# Altium schematic symbol library 1.5 - 精密运放-比较器.SchLib: 533 symbols (part 3 of 4)
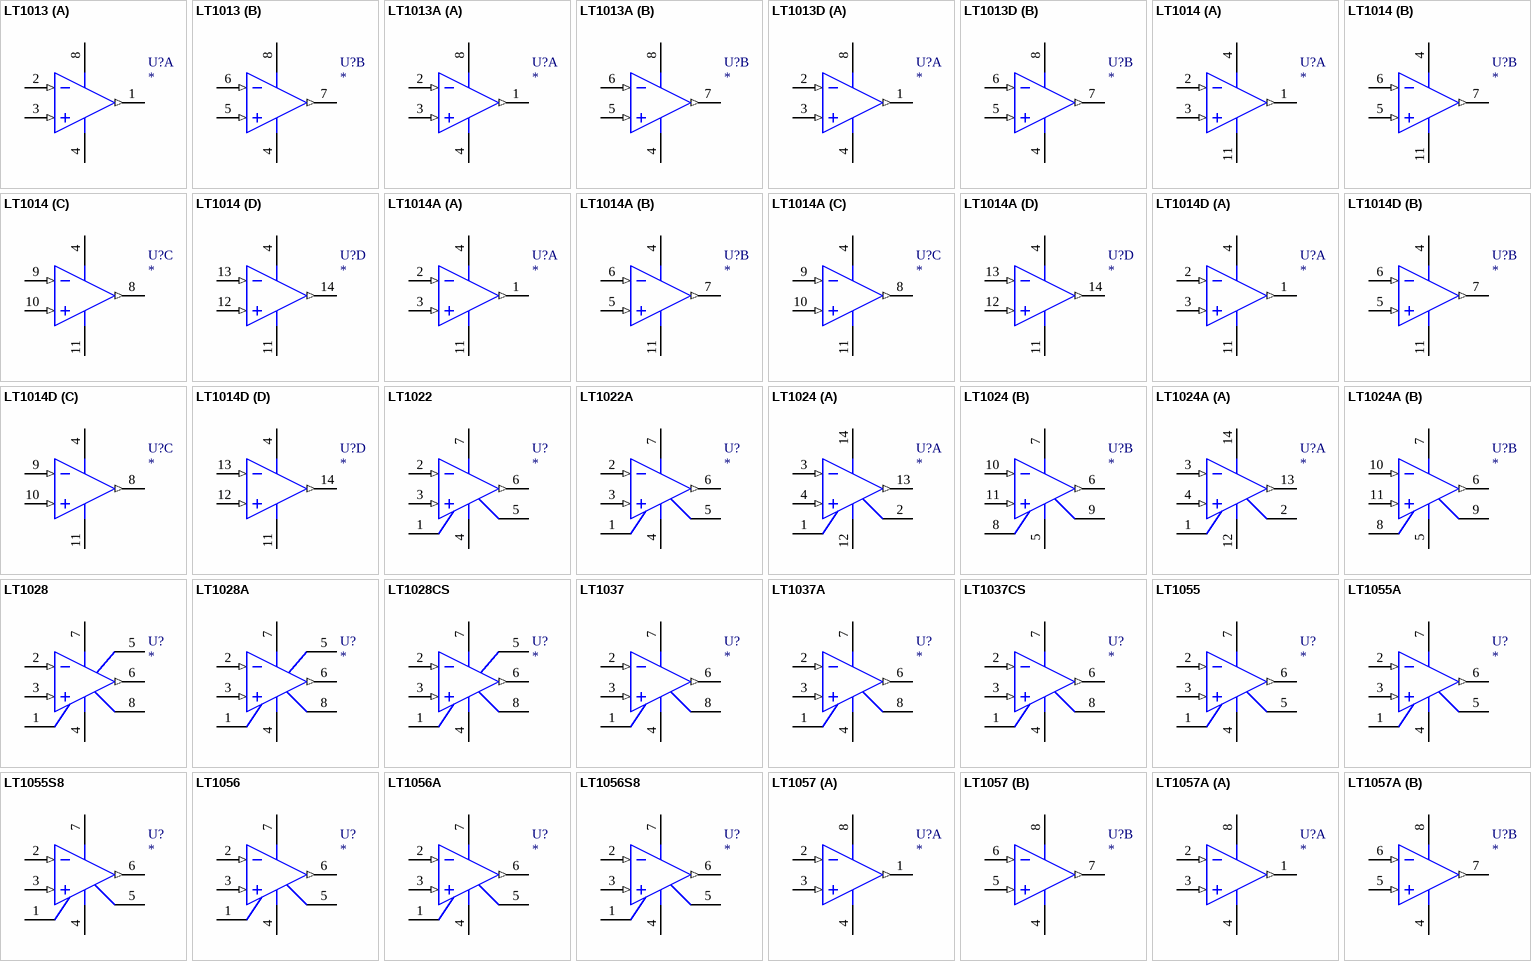
[diagram p25: symbols LT1013 to LT1057A]

## LT1055
designator U?
Precision, High Speed, JFET Input Operational Amplifier; 联系卖家 免费查找封装: 唯一出售店铺网址https://shop463601444.taobao.com
simulation model LT1055 (SUBCKT)
pins: 1 BAL, 2 -IN (in), 3 +IN (in), 4 V- (power), 5 BAL, 6 OUT (out), 7 V+ (power)

## LT1055A
designator U?
Precision, High Speed, JFET Input Operational Amplifier; 联系卖家 免费查找封装: 唯一出售店铺网址https://shop463601444.taobao.com
simulation model LT1055A (SUBCKT)
pins: 1 BAL, 2 -IN (in), 3 +IN (in), 4 V- (power), 5 BAL, 6 OUT (out), 7 V+ (power)

## LT1055S8
designator U?
Precision, High Speed, JFET Input Operational Amplifier; 联系卖家 免费查找封装: 唯一出售店铺网址https://shop463601444.taobao.com
simulation model LT1055S8 (SUBCKT)
pins: 1 BAL, 2 -IN (in), 3 +IN (in), 4 V- (power), 5 BAL, 6 OUT (out), 7 V+ (power)

## LT1056
designator U?
Precision, High Speed, JFET Input Operational Amplifier; 联系卖家 免费查找封装: 唯一出售店铺网址https://shop463601444.taobao.com
simulation model LT1056 (SUBCKT)
pins: 1 BAL, 2 -IN (in), 3 +IN (in), 4 V- (power), 5 BAL, 6 OUT (out), 7 V+ (power)

## LT1056A
designator U?
Precision, High Speed, JFET Input Operational Amplifier; 联系卖家 免费查找封装: 唯一出售店铺网址https://shop463601444.taobao.com
simulation model LT1056A (SUBCKT)
pins: 1 BAL, 2 -IN (in), 3 +IN (in), 4 V- (power), 5 BAL, 6 OUT (out), 7 V+ (power)

## LT1056S8
designator U?
Precision, High Speed, JFET Input Operational Amplifier; 联系卖家 免费查找封装: 唯一出售店铺网址https://shop463601444.taobao.com
simulation model LT1056S8 (SUBCKT)
pins: 1 BAL, 2 -IN (in), 3 +IN (in), 4 V- (power), 5 BAL, 6 OUT (out), 7 V+ (power)

## LT1057
designator U?
Dual JFET Input Precision High Speed Operational Amplifier; 联系卖家 免费查找封装: 唯一出售店铺网址https://shop463601444.taobao.com
simulation model LT1057 (SUBCKT)
part A pins: 1 OUT A (out), 2 -IN A (in), 3 +IN A (in), 4 V- (power), 8 V+ (power)
part B pins: 4 V- (power), 5 +IN B (in), 6 -IN B (in), 7 OUT B (out), 8 V+ (power)

## LT1057A
designator U?
Dual JFET Input Precision High Speed Operational Amplifier; 联系卖家 免费查找封装: 唯一出售店铺网址https://shop463601444.taobao.com
simulation model LT1057A (SUBCKT)
part A pins: 1 OUT A (out), 2 -IN A (in), 3 +IN A (in), 4 V- (power), 8 V+ (power)
part B pins: 4 V- (power), 5 +IN B (in), 6 -IN B (in), 7 OUT B (out), 8 V+ (power)

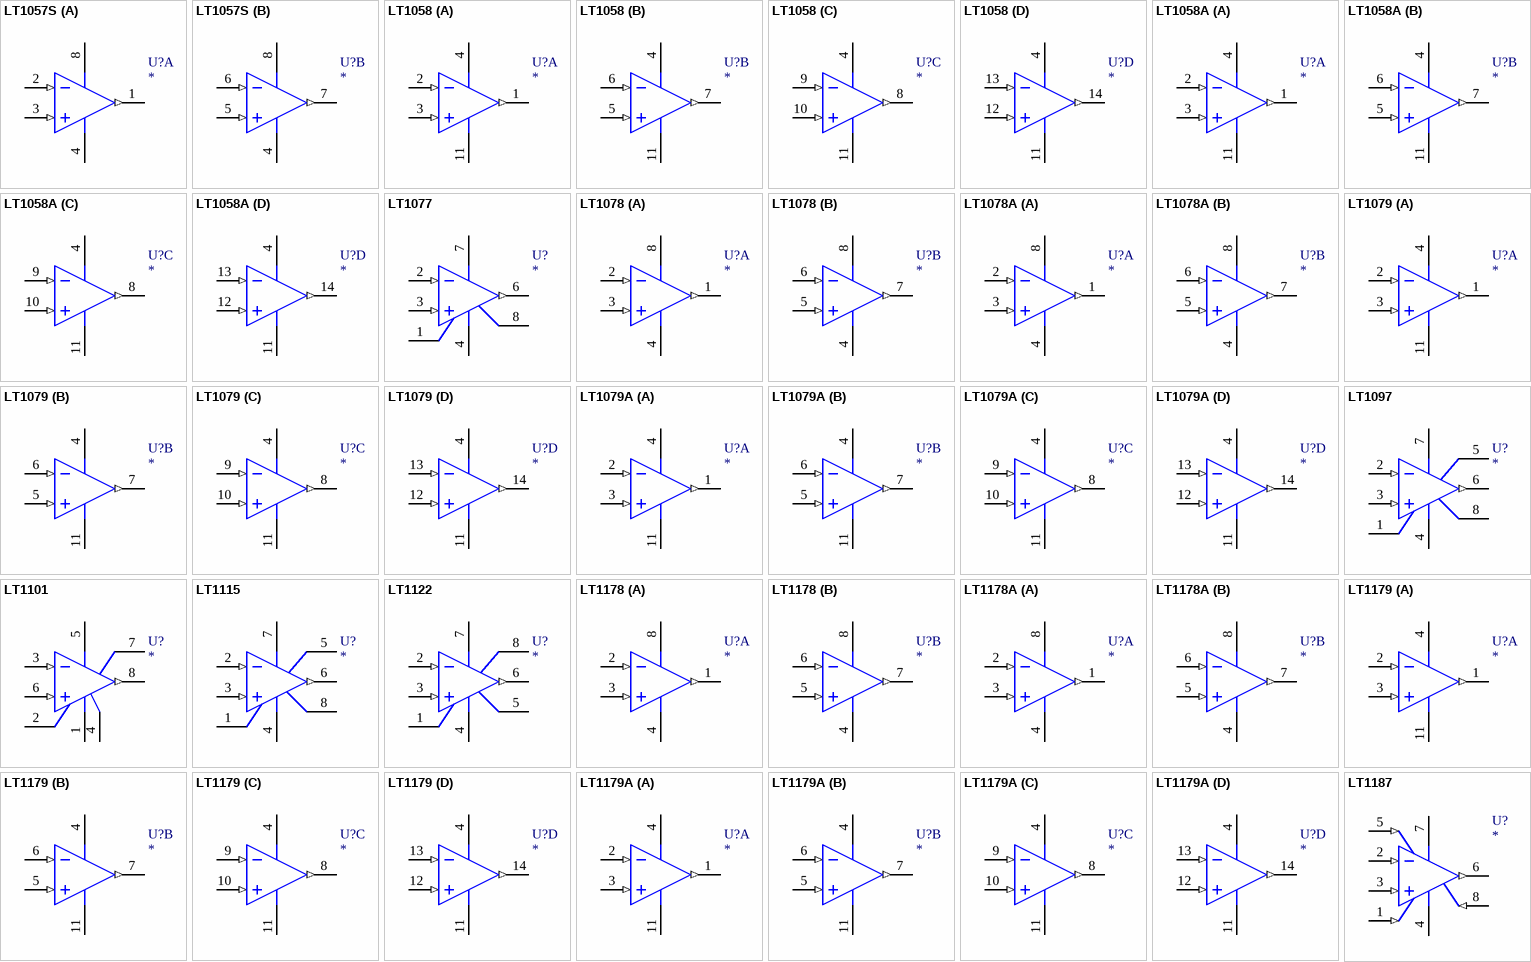
[diagram p13: symbols LT1057S to LT1187]

## LT1057S
designator U?
Dual JFET Input Precision High Speed Operational Amplifier; 联系卖家 免费查找封装: 唯一出售店铺网址https://shop463601444.taobao.com
simulation model LT1057S (SUBCKT)
part A pins: 1 OUT A (out), 2 -IN A (in), 3 +IN A (in), 4 V- (power), 8 V+ (power)
part B pins: 4 V- (power), 5 +IN B (in), 6 -IN B (in), 7 OUT B (out), 8 V+ (power)

## LT1058
designator U?
Quad JFET Input Precision High Speed Operational Amplifier; 联系卖家 免费查找封装: 唯一出售店铺网址https://shop463601444.taobao.com
simulation model LT1058 (SUBCKT)
part A pins: 1 OUT A (out), 2 -IN A (in), 3 +IN A (in), 4 V+ (power), 11 V- (power)
part B pins: 4 V+ (power), 5 +IN B (in), 6 -IN B (in), 7 OUT B (out), 11 V- (power)
part C pins: 4 V+ (power), 8 OUT C (out), 9 -IN C (in), 10 +IN C (in), 11 V- (power)
part D pins: 4 V+ (power), 11 V- (power), 12 +IN D (in), 13 -IN D (in), 14 OUT D (out)

## LT1058A
designator U?
Quad JFET Input Precision High Speed Operational Amplifier; 联系卖家 免费查找封装: 唯一出售店铺网址https://shop463601444.taobao.com
simulation model LT1058A (SUBCKT)
part A pins: 1 OUT A (out), 2 -IN A (in), 3 +IN A (in), 4 V+ (power), 11 V- (power)
part B pins: 4 V+ (power), 5 +IN B (in), 6 -IN B (in), 7 OUT B (out), 11 V- (power)
part C pins: 4 V+ (power), 8 OUT C (out), 9 -IN C (in), 10 +IN C (in), 11 V- (power)
part D pins: 4 V+ (power), 11 V- (power), 12 +IN D (in), 13 -IN D (in), 14 OUT D (out)

## LT1077
designator U?
Micropower, Single Supply Precision Operational Amplifier; 联系卖家 免费查找封装: 唯一出售店铺网址https://shop463601444.taobao.com
simulation model LT1077 (SUBCKT)
pins: 1 TRIM, 2 -IN (in), 3 +IN (in), 4 V- (power), 6 OUT (out), 7 V+ (power), 8 TRIM

## LT1078
designator U?
Dual Micropower, Single Supply Precision Operational Amplfier; 联系卖家 免费查找封装: 唯一出售店铺网址https://shop463601444.taobao.com
simulation model LT1078 (SUBCKT)
part A pins: 1 OUT A (out), 2 -IN A (in), 3 +IN A (in), 4 V- (power), 8 V+ (power)
part B pins: 4 V- (power), 5 +IN B (in), 6 -IN B (in), 7 OUT B (out), 8 V+ (power)

## LT1078A
designator U?
Dual Micropower, Single Supply Precision Operational Amplfier; 联系卖家 免费查找封装: 唯一出售店铺网址https://shop463601444.taobao.com
simulation model LT1078A (SUBCKT)
part A pins: 1 OUT A (out), 2 -IN A (in), 3 +IN A (in), 4 V- (power), 8 V+ (power)
part B pins: 4 V- (power), 5 +IN B (in), 6 -IN B (in), 7 OUT B (out), 8 V+ (power)

## LT1079
designator U?
Quad Micropower, Single Supply Precision Operational Amplfier; 联系卖家 免费查找封装: 唯一出售店铺网址https://shop463601444.taobao.com
simulation model LT1079 (SUBCKT)
part A pins: 1 OUT A (out), 2 -IN A (in), 3 +IN A (in), 4 V+ (power), 11 V- (power)
part B pins: 4 V+ (power), 5 +IN B (in), 6 -IN B (in), 7 OUT B (out), 11 V- (power)
part C pins: 4 V+ (power), 8 OUT C (out), 9 -IN C (in), 10 +IN C (in), 11 V- (power)
part D pins: 4 V+ (power), 11 V- (power), 12 +IN D (in), 13 -IN D (in), 14 OUT D (out)

## LT1079A
designator U?
Quad Micropower, Single Supply Precision Operational Amplfier; 联系卖家 免费查找封装: 唯一出售店铺网址https://shop463601444.taobao.com
simulation model LT1079A (SUBCKT)
part A pins: 1 OUT A (out), 2 -IN A (in), 3 +IN A (in), 4 V+ (power), 11 V- (power)
part B pins: 4 V+ (power), 5 +IN B (in), 6 -IN B (in), 7 OUT B (out), 11 V- (power)
part C pins: 4 V+ (power), 8 OUT C (out), 9 -IN C (in), 10 +IN C (in), 11 V- (power)
part D pins: 4 V+ (power), 11 V- (power), 12 +IN D (in), 13 -IN D (in), 14 OUT D (out)

## LT1097
designator U?
Low Cost, Low Power Precision Operational Amplifier; 联系卖家 免费查找封装: 唯一出售店铺网址https://shop463601444.taobao.com
simulation model LT1097 (SUBCKT)
pins: 1 TRIM, 2 -IN (in), 3 +IN (in), 4 V- (power), 5 OVER COMP, 6 OUT (out), 7 V+ (power), 8 TRIM

## LT1101
designator U?
Precision, Micropower, Single Supply Instrumentation Amplifier (Fixed Gain=10 or 100); 联系卖家 免费查找封装: 唯一出售店铺网址https://shop463601444.taobao.com
simulation model LT1101 (SUBCKT)
pins: 1 GND (power), 2 REF G10, 3 IN- (in), 4 VEE (power), 5 VCC (power), 6 IN+ (in), 7 OUT G10, 8 OUT (out)

## LT1115
designator U?
Ultra-Low Noise, Low Distortion, Audio Operational Amplfier; 联系卖家 免费查找封装: 唯一出售店铺网址https://shop463601444.taobao.com
simulation model LT1115 (SUBCKT)
pins: 1 TRIM, 2 -IN (in), 3 +IN (in), 4 V- (power), 5 OVER COMP, 6 OUT (out), 7 V+ (power), 8 TRIM

## LT1122
designator U?
Fast Settling, JFET Input Operational Amplifier; 联系卖家 免费查找封装: 唯一出售店铺网址https://shop463601444.taobao.com
simulation model LT1122 (SUBCKT)
pins: 1 TRIM, 2 -IN (in), 3 +IN (in), 4 V- (power), 5 TRIM, 6 OUT (out), 7 V+ (power), 8 OVERCOMP

## LT1178
designator U?
17uA Max Dual, Single Supply, Precision Operational Amplifier; 联系卖家 免费查找封装: 唯一出售店铺网址https://shop463601444.taobao.com
simulation model LT1178 (SUBCKT)
part A pins: 1 OUT A (out), 2 -IN A (in), 3 +IN A (in), 4 V- (power), 8 V+ (power)
part B pins: 4 V- (power), 5 +IN B (in), 6 -IN B (in), 7 OUT B (out), 8 V+ (power)

## LT1178A
designator U?
17uA Max Dual, Single Supply, Precision Operational Amplifier; 联系卖家 免费查找封装: 唯一出售店铺网址https://shop463601444.taobao.com
simulation model LT1178A (SUBCKT)
part A pins: 1 OUT A (out), 2 -IN A (in), 3 +IN A (in), 4 V- (power), 8 V+ (power)
part B pins: 4 V- (power), 5 +IN B (in), 6 -IN B (in), 7 OUT B (out), 8 V+ (power)

## LT1179
designator U?
17uA Max Quad, Single Supply, Precision Operational Amplifier; 联系卖家 免费查找封装: 唯一出售店铺网址https://shop463601444.taobao.com
simulation model LT1179 (SUBCKT)
part A pins: 1 OUT A (out), 2 -IN A (in), 3 +IN A (in), 4 V+ (power), 11 V- (power)
part B pins: 4 V+ (power), 5 +IN B (in), 6 -IN B (in), 7 OUT B (out), 11 V- (power)
part C pins: 4 V+ (power), 8 OUT C (out), 9 -IN C (in), 10 +IN C (in), 11 V- (power)
part D pins: 4 V+ (power), 11 V- (power), 12 +IN D (in), 13 -IN D (in), 14 OUT D (out)

## LT1179A
designator U?
17uA Max Quad, Single Supply, Precision Operational Amplifier; 联系卖家 免费查找封装: 唯一出售店铺网址https://shop463601444.taobao.com
simulation model LT1179A (SUBCKT)
part A pins: 1 OUT A (out), 2 -IN A (in), 3 +IN A (in), 4 V+ (power), 11 V- (power)
part B pins: 4 V+ (power), 5 +IN B (in), 6 -IN B (in), 7 OUT B (out), 11 V- (power)
part C pins: 4 V+ (power), 8 OUT C (out), 9 -IN C (in), 10 +IN C (in), 11 V- (power)
part D pins: 4 V+ (power), 11 V- (power), 12 +IN D (in), 13 -IN D (in), 14 OUT D (out)

## LT1187
designator U?
Low Power Video Difference Amplifier; 联系卖家 免费查找封装: 唯一出售店铺网址https://shop463601444.taobao.com
simulation model LT1187 (SUBCKT)
pins: 1 REF+ (in), 2 IN- (in), 3 IN+ (in), 4 VEE (power), 5 SD (in), 6 OUT (out), 7 VCC (power), 8 FB- (in)

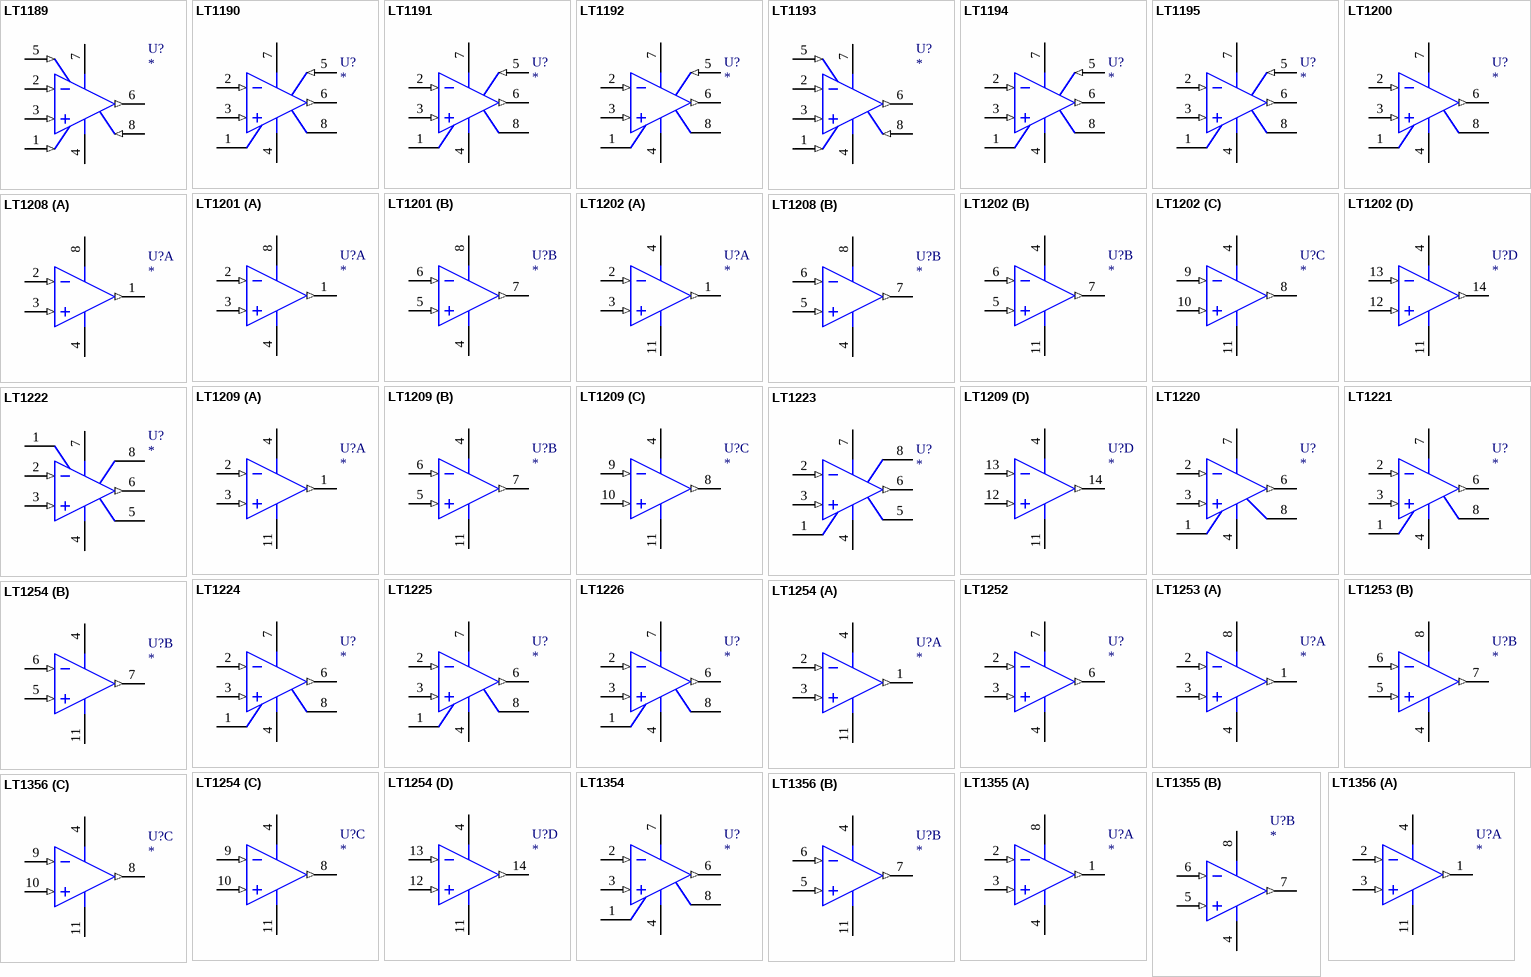
[diagram p14: symbols LT1189 to LT1356]

## LT1189
designator U?
Low Power Video Difference Amplifier; 联系卖家 免费查找封装: 唯一出售店铺网址https://shop463601444.taobao.com
simulation model LT1189 (SUBCKT)
pins: 1 REF+ (in), 2 IN- (in), 3 IN+ (in), 4 VEE (power), 5 SD (in), 6 OUT (out), 7 VCC (power), 8 FB- (in)

## LT1190
designator U?
Ultra High Speed Operational Amplifier; 联系卖家 免费查找封装: 唯一出售店铺网址https://shop463601444.taobao.com
simulation model LT1190 (SUBCKT)
pins: 1 BAL, 2 IN- (in), 3 IN+ (in), 4 VEE (power), 5 SD (in), 6 OUT (out), 7 VCC (power), 8 BAL

## LT1191
designator U?
Ultra High Speed Operational Amplifier; 联系卖家 免费查找封装: 唯一出售店铺网址https://shop463601444.taobao.com
simulation model LT1191 (SUBCKT)
pins: 1 BAL, 2 IN- (in), 3 IN+ (in), 4 VEE (power), 5 SD (in), 6 OUT (out), 7 VCC (power), 8 BAL

## LT1192
designator U?
Ultra High Speed Operational Amplifier; 联系卖家 免费查找封装: 唯一出售店铺网址https://shop463601444.taobao.com
simulation model LT1192 (SUBCKT)
pins: 1 BAL, 2 IN- (in), 3 IN+ (in), 4 VEE (power), 5 SD (in), 6 OUT (out), 7 VCC (power), 8 BAL

## LT1193
designator U?
Video Difference Amplifier; 联系卖家 免费查找封装: 唯一出售店铺网址https://shop463601444.taobao.com
simulation model LT1193 (SUBCKT)
pins: 1 REF+ (in), 2 IN- (in), 3 IN+ (in), 4 VEE (power), 5 SD (in), 6 OUT (out), 7 VCC (power), 8 FB- (in)

## LT1194
designator U?
Video Difference Amplifier; 联系卖家 免费查找封装: 唯一出售店铺网址https://shop463601444.taobao.com
simulation model LT1194 (SUBCKT)
pins: 1 BAL, 2 IN- (in), 3 IN+ (in), 4 VEE (power), 5 REF (in), 6 OUT (out), 7 VCC (power), 8 BAL

## LT1195
designator U?
Low Power, High Speed Operational Amplifier; 联系卖家 免费查找封装: 唯一出售店铺网址https://shop463601444.taobao.com
simulation model LT1195 (SUBCKT)
pins: 1 BAL, 2 IN- (in), 3 IN+ (in), 4 VEE (power), 5 SD (in), 6 OUT (out), 7 VCC (power), 8 BAL

## LT1200
designator U?
Low Power High Speed Operational Amplifier; Text Field6: Pin 5 is not connected; 联系卖家 免费查找封装: 唯一出售店铺网址https://shop463601444.taobao.com
simulation model LT1200 (SUBCKT)
pins: 1 NULL, 2 IN- (in), 3 IN+ (in), 4 VEE (power), 6 OUT (out), 7 VCC (power), 8 NULL

## LT1201
designator U?
Dual 1mA, 12MHz, 50V/uS Op Amp; 联系卖家 免费查找封装: 唯一出售店铺网址https://shop463601444.taobao.com
simulation model LT1201 (SUBCKT)
part A pins: 1 OUT (out), 2 IN- (in), 3 IN+ (in), 4 VEE (power), 8 VCC (power)
part B pins: 4 VEE (power), 5 IN+ (in), 6 IN- (in), 7 OUT (out), 8 VCC (power)

## LT1202
designator U?
Quad 1mA, 12MHz, 50V/uS Op Amp; 联系卖家 免费查找封装: 唯一出售店铺网址https://shop463601444.taobao.com
simulation model LT1202 (SUBCKT)
part A pins: 1 OUT (out), 2 IN- (in), 3 IN+ (in), 4 VCC (power), 11 VEE (power)
part B pins: 4 VCC (power), 5 IN+ (in), 6 IN- (in), 7 OUT (out), 11 VEE (power)
part C pins: 4 VCC (power), 8 OUT (out), 9 IN- (in), 10 IN+ (in), 11 VEE (power)
part D pins: 4 VCC (power), 11 VEE (power), 12 IN+ (in), 13 IN- (in), 14 OUT (out)

## LT1208
designator U?
Dual 45MHz, 400V/uS Op Amp; 联系卖家 免费查找封装: 唯一出售店铺网址https://shop463601444.taobao.com
simulation model LT1208 (SUBCKT)
part A pins: 1 OUT (out), 2 IN- (in), 3 IN+ (in), 4 VEE (power), 8 VCC (power)
part B pins: 4 VEE (power), 5 IN+ (in), 6 IN- (in), 7 OUT (out), 8 VCC (power)

## LT1209
designator U?
Quad 45MHz, 400V/uS Op Amp; 联系卖家 免费查找封装: 唯一出售店铺网址https://shop463601444.taobao.com
simulation model LT1209 (SUBCKT)
part A pins: 1 OUT (out), 2 IN- (in), 3 IN+ (in), 4 VCC (power), 11 VEE (power)
part B pins: 4 VCC (power), 5 IN+ (in), 6 IN- (in), 7 OUT (out), 11 VEE (power)
part C pins: 4 VCC (power), 8 OUT (out), 9 IN- (in), 10 IN+ (in), 11 VEE (power)
part D pins: 4 VCC (power), 11 VEE (power), 12 IN+ (in), 13 IN- (in), 14 OUT (out)

## LT1220
designator U?
45MHz, 250V/祍 Operational Amplifier; 联系卖家 免费查找封装: 唯一出售店铺网址https://shop463601444.taobao.com
simulation model LT1220 (SUBCKT)
pins: 1 NULL, 2 -IN (in), 3 +IN (in), 4 V- (power), 6 OUT (out), 7 V+ (power), 8 NULL

## LT1221
designator U?
Very High Speed Operational Amplifier; Text Field6: Pin 5 is not connected; 联系卖家 免费查找封装: 唯一出售店铺网址https://shop463601444.taobao.com
simulation model LT1221 (SUBCKT)
pins: 1 NULL, 2 IN- (in), 3 IN+ (in), 4 VEE (power), 6 OUT (out), 7 VCC (power), 8 NULL

## LT1222
designator U?
Low Noise, Very High Speed Operational Amplifier; 联系卖家 免费查找封装: 唯一出售店铺网址https://shop463601444.taobao.com
simulation model LT1222 (SUBCKT)
pins: 1 NULL, 2 IN- (in), 3 IN+ (in), 4 VEE (power), 5 COMP, 6 OUT (out), 7 VCC (power), 8 NULL

## LT1223
designator U?
100MHz Current Feedback Amplifier; 联系卖家 免费查找封装: 唯一出售店铺网址https://shop463601444.taobao.com
simulation model LT1223 (SUBCKT)
pins: 1 NULL, 2 IN- (in), 3 IN+ (in), 4 VEE (power), 5 NULL, 6 OUT (out), 7 VCC (power), 8 SD

## LT1224
designator U?
Very High Speed Operational Amplifier; Text Field6: Pin 5 is not connected; 联系卖家 免费查找封装: 唯一出售店铺网址https://shop463601444.taobao.com
simulation model LT1224 (SUBCKT)
pins: 1 NULL, 2 IN- (in), 3 IN+ (in), 4 VEE (power), 6 OUT (out), 7 VCC (power), 8 NULL

## LT1225
designator U?
Very High Speed Operational Amplifier; Text Field6: Pin 5 is not connected; 联系卖家 免费查找封装: 唯一出售店铺网址https://shop463601444.taobao.com
footprint DIP-8
simulation model LT1225 (SUBCKT)
pins: 1 NULL, 2 IN- (in), 3 IN+ (in), 4 VEE (power), 6 OUT (out), 7 VCC (power), 8 NULL

## LT1226
designator U?
Low Noise Very High Speed Operational Amplifier; Text Field6: Pin 5 is not connected; 联系卖家 免费查找封装: 唯一出售店铺网址https://shop463601444.taobao.com
simulation model LT1226 (SUBCKT)
pins: 1 NULL, 2 IN- (in), 3 IN+ (in), 4 VEE (power), 6 OUT (out), 7 VCC (power), 8 NULL

## LT1252
designator U?
Low Cost Video Amplifier; Text Field6: Pins 1, 5, and 8 are not connected; 联系卖家 免费查找封装: 唯一出售店铺网址https://shop463601444.taobao.com
simulation model LT1252 (SUBCKT)
pins: 2 IN- (in), 3 IN+ (in), 4 VEE (power), 6 OUT (out), 7 VCC (power)

## LT1253
designator U?
Low Cost Dual Video Amplifier; 联系卖家 免费查找封装: 唯一出售店铺网址https://shop463601444.taobao.com
simulation model LT1253 (SUBCKT)
part A pins: 1 OUT (out), 2 IN- (in), 3 IN+ (in), 4 VEE (power), 8 VCC (power)
part B pins: 4 VEE (power), 5 IN+ (in), 6 IN- (in), 7 OUT (out), 8 VCC (power)

## LT1254
designator U?
Low Cost Quad Video Amplifier; 联系卖家 免费查找封装: 唯一出售店铺网址https://shop463601444.taobao.com
simulation model LT1254 (SUBCKT)
part A pins: 1 OUT (out), 2 IN- (in), 3 IN+ (in), 4 VCC (power), 11 VEE (power)
part B pins: 4 VCC (power), 5 IN+ (in), 6 IN- (in), 7 OUT (out), 11 VEE (power)
part C pins: 4 VCC (power), 8 OUT (out), 9 IN- (in), 10 IN+ (in), 11 VEE (power)
part D pins: 4 VCC (power), 11 VEE (power), 12 IN+ (in), 13 IN- (in), 14 OUT (out)

## LT1354
designator U?
12MHz, 400V/uS Op Amp; Text Field6: Pin 5 is not connected; 联系卖家 免费查找封装: 唯一出售店铺网址https://shop463601444.taobao.com
simulation model LT1354 (SUBCKT)
pins: 1 NULL, 2 IN- (in), 3 IN+ (in), 4 VEE (power), 6 OUT (out), 7 VCC (power), 8 NULL

## LT1355
designator U?
Dual 12MHz, 400V/uS Op Amp; 联系卖家 免费查找封装: 唯一出售店铺网址https://shop463601444.taobao.com
simulation model LT1355 (SUBCKT)
part A pins: 1 OUT (out), 2 IN- (in), 3 IN+ (in), 4 VEE (power), 8 VCC (power)
part B pins: 4 VEE (power), 5 IN+ (in), 6 IN- (in), 7 OUT (out), 8 VCC (power)

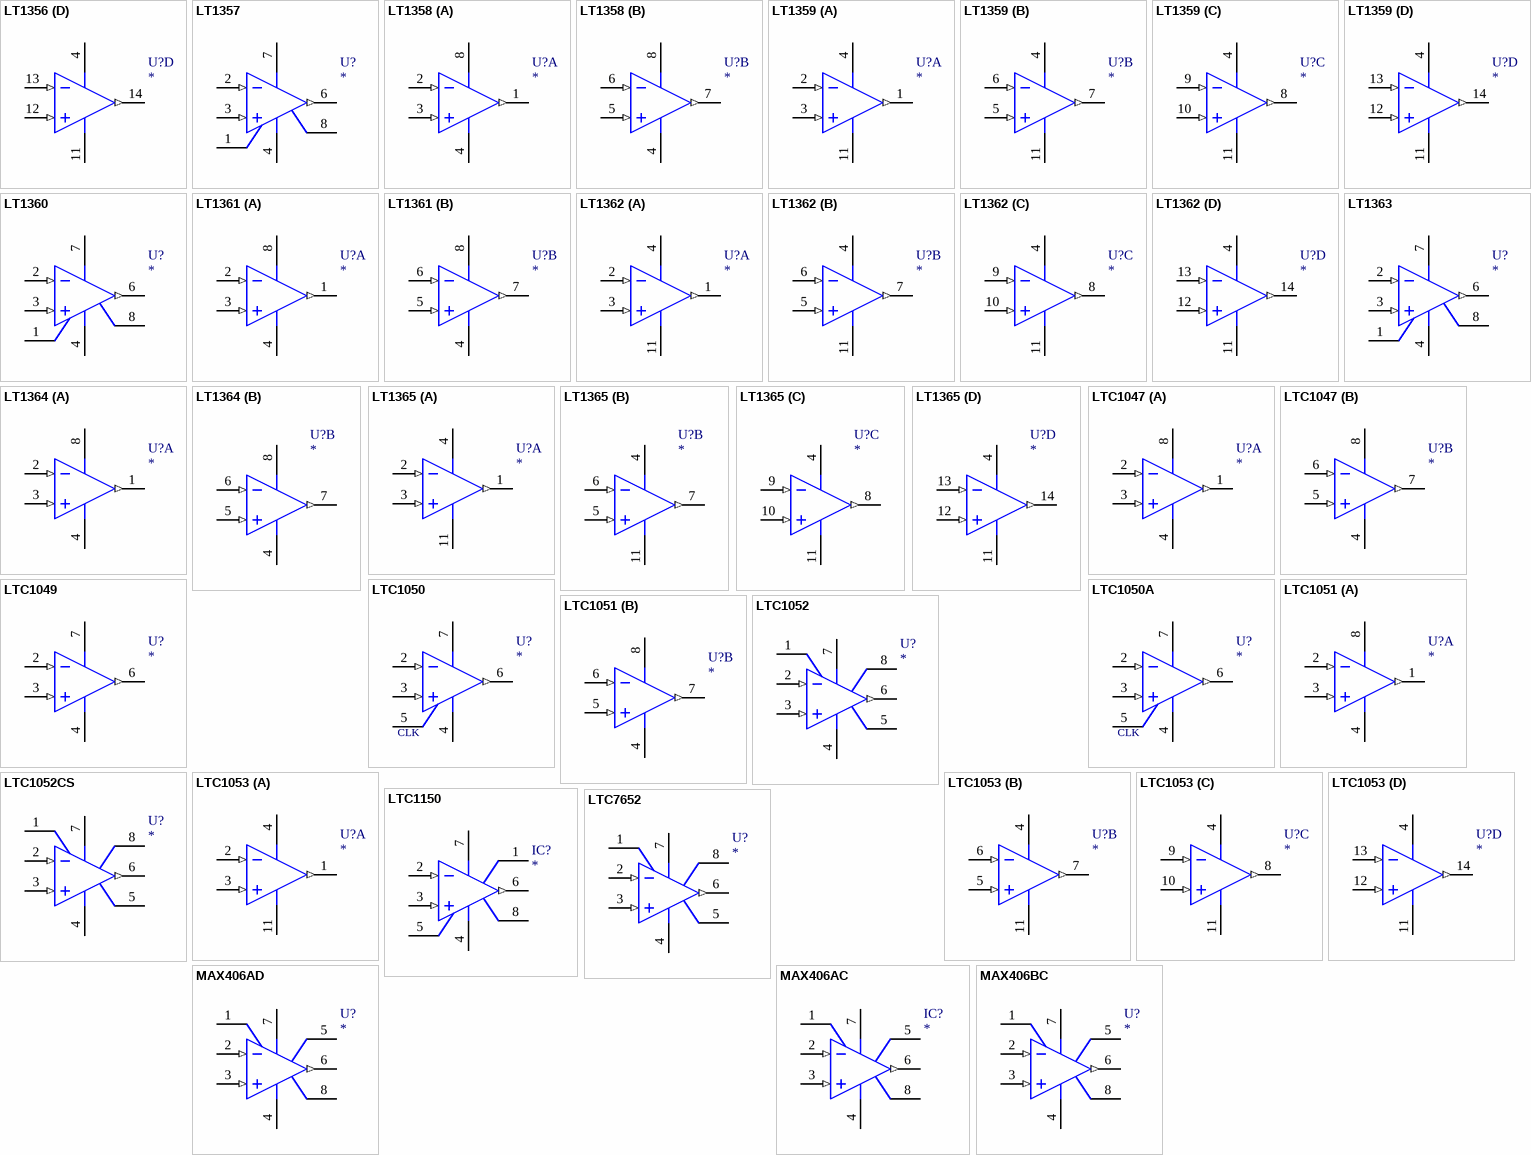
[diagram p15: symbols LT1356 to MAX406BC]

## LT1356
designator U?
Quad 12MHz, 400V/uS Op Amp; 联系卖家 免费查找封装: 唯一出售店铺网址https://shop463601444.taobao.com
simulation model LT1356 (SUBCKT)
part A pins: 1 OUT (out), 2 IN- (in), 3 IN+ (in), 4 VCC (power), 11 VEE (power)
part B pins: 4 VCC (power), 5 IN+ (in), 6 IN- (in), 7 OUT (out), 11 VEE (power)
part C pins: 4 VCC (power), 8 OUT (out), 9 IN- (in), 10 IN+ (in), 11 VEE (power)
part D pins: 4 VCC (power), 11 VEE (power), 12 IN+ (in), 13 IN- (in), 14 OUT (out)

## LT1357
designator U?
25MHz, 600V/uS Op Amp; Text Field6: Pin 5 is not connected; 联系卖家 免费查找封装: 唯一出售店铺网址https://shop463601444.taobao.com
simulation model LT1357 (SUBCKT)
pins: 1 NULL, 2 IN- (in), 3 IN+ (in), 4 VEE (power), 6 OUT (out), 7 VCC (power), 8 NULL

## LT1358
designator U?
Dual 25MHz, 600V/uS Op Amp; 联系卖家 免费查找封装: 唯一出售店铺网址https://shop463601444.taobao.com
simulation model LT1358 (SUBCKT)
part A pins: 1 OUT (out), 2 IN- (in), 3 IN+ (in), 4 VEE (power), 8 VCC (power)
part B pins: 4 VEE (power), 5 IN+ (in), 6 IN- (in), 7 OUT (out), 8 VCC (power)

## LT1359
designator U?
Quad 25MHz, 600V/uS Op Amp; 联系卖家 免费查找封装: 唯一出售店铺网址https://shop463601444.taobao.com
simulation model LT1359 (SUBCKT)
part A pins: 1 OUT (out), 2 IN- (in), 3 IN+ (in), 4 VCC (power), 11 VEE (power)
part B pins: 4 VCC (power), 5 IN+ (in), 6 IN- (in), 7 OUT (out), 11 VEE (power)
part C pins: 4 VCC (power), 8 OUT (out), 9 IN- (in), 10 IN+ (in), 11 VEE (power)
part D pins: 4 VCC (power), 11 VEE (power), 12 IN+ (in), 13 IN- (in), 14 OUT (out)

## LT1360
designator U?
50MHz, 800V/uS Op Amp; Text Field6: Pin 5 is not connected; 联系卖家 免费查找封装: 唯一出售店铺网址https://shop463601444.taobao.com
simulation model LT1360 (SUBCKT)
pins: 1 NULL, 2 IN- (in), 3 IN+ (in), 4 VEE (power), 6 OUT (out), 7 VCC (power), 8 NULL

## LT1361
designator U?
Dual 50MHz, 800V/uS Op Amp; 联系卖家 免费查找封装: 唯一出售店铺网址https://shop463601444.taobao.com
simulation model LT1361 (SUBCKT)
part A pins: 1 OUT (out), 2 IN- (in), 3 IN+ (in), 4 VEE (power), 8 VCC (power)
part B pins: 4 VEE (power), 5 IN+ (in), 6 IN- (in), 7 OUT (out), 8 VCC (power)

## LT1362
designator U?
Quad 50MHz, 800V/uS Op Amp; 联系卖家 免费查找封装: 唯一出售店铺网址https://shop463601444.taobao.com
simulation model LT1362 (SUBCKT)
part A pins: 1 OUT (out), 2 IN- (in), 3 IN+ (in), 4 VCC (power), 11 VEE (power)
part B pins: 4 VCC (power), 5 IN+ (in), 6 IN- (in), 7 OUT (out), 11 VEE (power)
part C pins: 4 VCC (power), 8 OUT (out), 9 IN- (in), 10 IN+ (in), 11 VEE (power)
part D pins: 4 VCC (power), 11 VEE (power), 12 IN+ (in), 13 IN- (in), 14 OUT (out)

## LT1363
designator U?
70MHz, 1000V/uS Op Amp; Text Field6: Pin 5 is not connected; 联系卖家 免费查找封装: 唯一出售店铺网址https://shop463601444.taobao.com
simulation model LT1363 (SUBCKT)
pins: 1 NULL, 2 IN- (in), 3 IN+ (in), 4 VEE (power), 6 OUT (out), 7 VCC (power), 8 NULL

## LT1364
designator U?
Dual 70MHz, 1000V/uS Op Amp; 联系卖家 免费查找封装: 唯一出售店铺网址https://shop463601444.taobao.com
footprint DIP-8
simulation model LT1364 (SUBCKT)
part A pins: 1 OUT (out), 2 IN- (in), 3 IN+ (in), 4 VEE (power), 8 VCC (power)
part B pins: 4 VEE (power), 5 IN+ (in), 6 IN- (in), 7 OUT (out), 8 VCC (power)

## LT1365
designator U?
Quad 70MHz, 1000V/uS Op Amp; 联系卖家 免费查找封装: 唯一出售店铺网址https://shop463601444.taobao.com
simulation model LT1365 (SUBCKT)
part A pins: 1 OUT (out), 2 IN- (in), 3 IN+ (in), 4 VCC (power), 11 VEE (power)
part B pins: 4 VCC (power), 5 IN+ (in), 6 IN- (in), 7 OUT (out), 11 VEE (power)
part C pins: 4 VCC (power), 8 OUT (out), 9 IN- (in), 10 IN+ (in), 11 VEE (power)
part D pins: 4 VCC (power), 11 VEE (power), 12 IN+ (in), 13 IN- (in), 14 OUT (out)

## LTC1047
designator U?
Dual Micropower Chopper Stabilized Operational Amplifier with Internal Capacitor; 联系卖家 免费查找封装: 唯一出售店铺网址https://shop463601444.taobao.com
simulation model LTC1047 (SUBCKT)
part A pins: 1 OUT (out), 2 IN- (in), 3 IN+ (in), 4 VEE (power), 8 VCC (power)
part B pins: 4 VEE (power), 5 IN+ (in), 6 IN- (in), 7 OUT (out), 8 VCC (power)

## LTC1049
designator U?
Low Power Chopper Stabilized Operational Amplifier with Internal Capacitors; 联系卖家 免费查找封装: 唯一出售店铺网址https://shop463601444.taobao.com
footprint DIP-8
simulation model LTC1049 (SUBCKT)
pins: 2 -IN (in), 3 +IN (in), 4 V- (power), 6 OUT (out), 7 V+ (power)

## LTC1050
designator U?
Precision Chopper Stabilized Operational Amplifier with Internal Capacitors; 联系卖家 免费查找封装: 唯一出售店铺网址https://shop463601444.taobao.com
footprint DIP-8
simulation model LTC1050 (SUBCKT)
pins: 2 -IN (in), 3 +IN (in), 4 V- (power), 5 EXT CLOCK INPUT, 6 OUT (out), 7 V+ (power)
text: CLK

## LTC1050A
designator U?
Precision Chopper Stabilized Operational Amplifier with Internal Capacitors; 联系卖家 免费查找封装: 唯一出售店铺网址https://shop463601444.taobao.com
footprint DIP-8
simulation model LTC1050A (SUBCKT)
pins: 2 -IN (in), 3 +IN (in), 4 V- (power), 5 EXT CLOCK INPUT, 6 OUT (out), 7 V+ (power)
text: CLK

## LTC1051
designator U?
Dual Precision Chopper Stabilized Operational Amplifiers with Internal Capacitors; 联系卖家 免费查找封装: 唯一出售店铺网址https://shop463601444.taobao.com
footprint DIP-8
simulation model LTC1051 (SUBCKT)
part A pins: 1 OUT A (out), 2 -IN A (in), 3 +IN A (in), 4 V- (power), 8 V+ (power)
part B pins: 4 V- (power), 5 +IN B (in), 6 -IN B (in), 7 OUT B (out), 8 V+ (power)

## LTC1052
designator U?
Chopper-Stabilized Operational Amplifier (CSOA); 联系卖家 免费查找封装: 唯一出售店铺网址https://shop463601444.taobao.com
simulation model LTC1052 (SUBCKT)
pins: 1 EXTA, 2 -IN (in), 3 +IN (in), 4 V- (power), 5 OUTPUT CLAMP, 6 OUT (out), 7 V+ (power), 8 EXTB

## LTC1052CS
designator U?
Chopper-Stabilized Operational Amplifier (CSOA); 联系卖家 免费查找封装: 唯一出售店铺网址https://shop463601444.taobao.com
simulation model LTC1052CS (SUBCKT)
pins: 1 EXTA, 2 -IN (in), 3 +IN (in), 4 V- (power), 5 OUTPUT CLAMP, 6 OUT (out), 7 V+ (power), 8 EXTB

## LTC1053
designator U?
Quad Precision Chopper Stabilized Operational Amplifiers with Internal Capacitors; 联系卖家 免费查找封装: 唯一出售店铺网址https://shop463601444.taobao.com
simulation model LTC1053 (SUBCKT)
part A pins: 1 OUT A (out), 2 -IN A (in), 3 +IN A (in), 4 V+ (power), 11 V- (power)
part B pins: 4 V+ (power), 5 +IN B (in), 6 -IN B (in), 7 OUT B (out), 11 V- (power)
part C pins: 4 V+ (power), 8 OUT C (out), 9 -IN C (in), 10 +IN C (in), 11 V- (power)
part D pins: 4 V+ (power), 11 V- (power), 12 +IN D (in), 13 -IN D (in), 14 OUT D (out)

## LTC1150
designator IC?
?5V Chopper Stabilized Operational Amplifier with Internal Capacitors; 联系卖家 免费查找封装: 唯一出售店铺网址https://shop463601444.taobao.com
footprint DIP-8
simulation model LTC1150 (SUBCKT)
pins: 1 SUPPLY, 2 -IN (in), 3 +IN (in), 4 V- (power), 5 EXT CLOCK IN, 6 OUT (out), 7 V+ (power), 8 CLOCK OUT

## LTC7652
designator U?
Chopper-Stabilized Operational Amplifier (CSOA ); 联系卖家 免费查找封装: 唯一出售店铺网址https://shop463601444.taobao.com
simulation model LTC7652 (SUBCKT)
pins: 1 EXTA, 2 -IN (in), 3 +IN (in), 4 V- (power), 5 OUTPUT CLAMP, 6 OUT (out), 7 V+ (power), 8 EXTB

## MAX406AC
designator IC?
1.2 Micro A Max, Single-Supply Op Amp; 联系卖家 免费查找封装: 唯一出售店铺网址https://shop463601444.taobao.com
footprint DIP-8
simulation model MAX406AC (SUBCKT)
pins: 1 NULL, 2 IN- (in), 3 IN+ (in), 4 VEE (power), 5 NULL, 6 OUT (out), 7 VCC (power), 8 BW

## MAX406AD
designator U?
1.2 Micro A Max, Single-Supply Op Amp; 联系卖家 免费查找封装: 唯一出售店铺网址https://shop463601444.taobao.com
simulation model MAX406AD (SUBCKT)
pins: 1 NULL, 2 IN- (in), 3 IN+ (in), 4 VEE (power), 5 NULL, 6 OUT (out), 7 VCC (power), 8 BW

## MAX406BC
designator U?
1.2 Micro A Max, Single-Supply Op Amp; 联系卖家 免费查找封装: 唯一出售店铺网址https://shop463601444.taobao.com
simulation model MAX406BC (SUBCKT)
pins: 1 NULL, 2 IN- (in), 3 IN+ (in), 4 VEE (power), 5 NULL, 6 OUT (out), 7 VCC (power), 8 BW

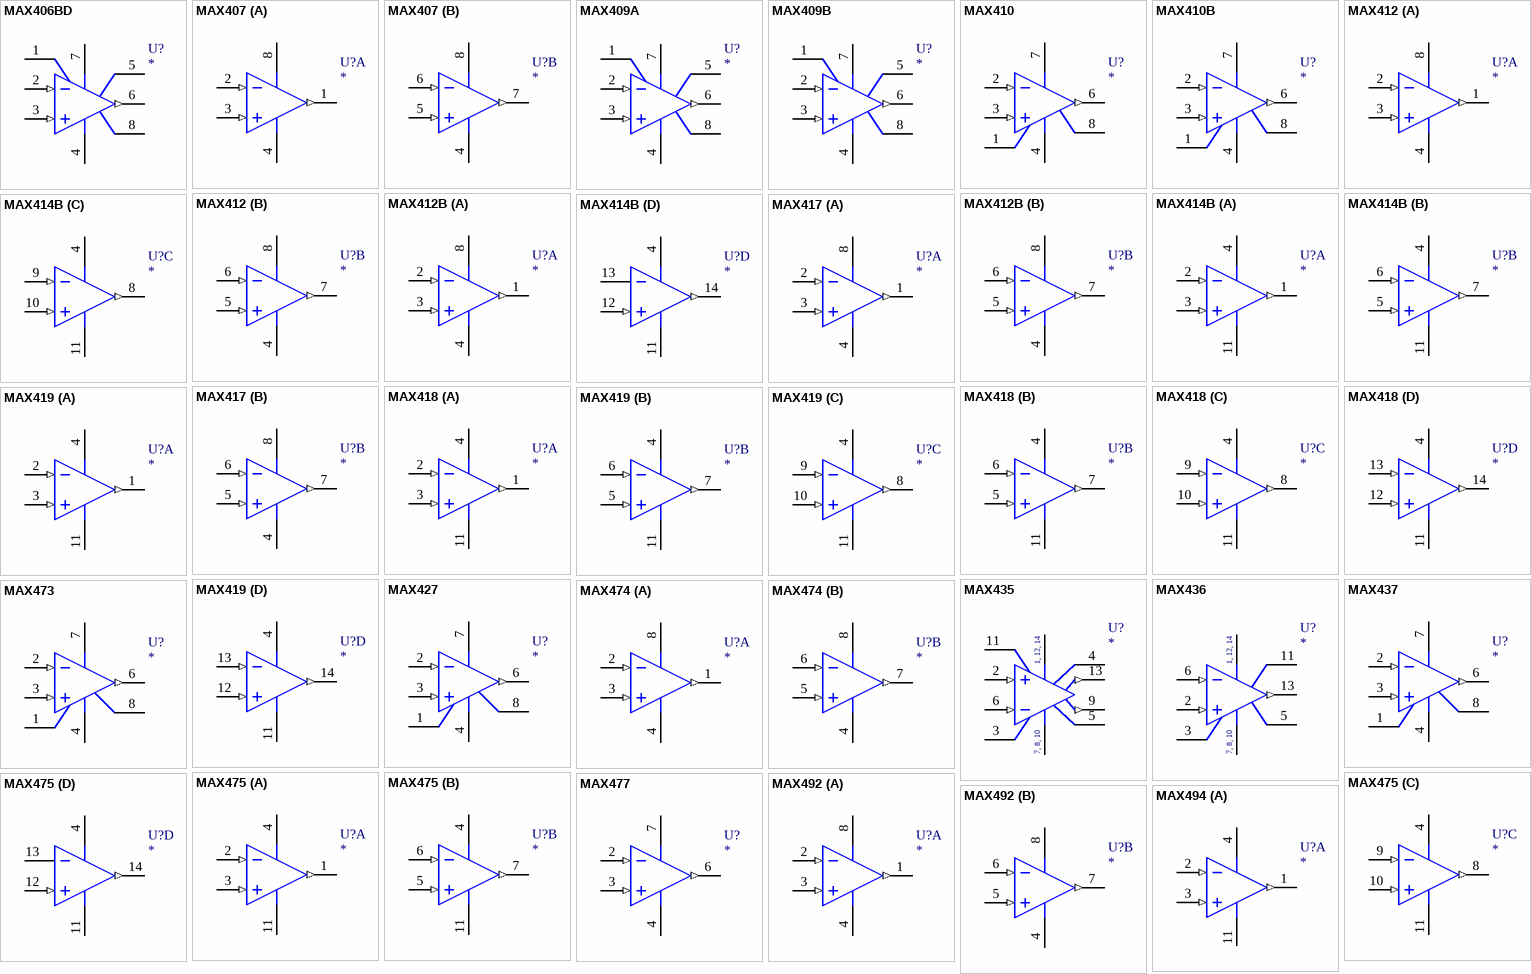
[diagram p16: symbols MAX406BD to MAX494]

## MAX406BD
designator U?
1.2 Micro A Max, Single-Supply Op Amp; 联系卖家 免费查找封装: 唯一出售店铺网址https://shop463601444.taobao.com
simulation model MAX406BD (SUBCKT)
pins: 1 NULL, 2 IN- (in), 3 IN+ (in), 4 VEE (power), 5 NULL, 6 OUT (out), 7 VCC (power), 8 BW

## MAX407
designator U?
1.2 Micro A Max, Dual Single-Supply Op Amp; 联系卖家 免费查找封装: 唯一出售店铺网址https://shop463601444.taobao.com
simulation model MAX407 (SUBCKT)
part A pins: 1 OUT (out), 2 IN- (in), 3 IN+ (in), 4 VEE (power), 8 VCC (power)
part B pins: 4 VEE (power), 5 IN+ (in), 6 IN- (in), 7 OUT (out), 8 VCC (power)

## MAX409A
designator U?
1.2 Micro A Max, Single-Supply Op Amp; 联系卖家 免费查找封装: 唯一出售店铺网址https://shop463601444.taobao.com
simulation model MAX409A (SUBCKT)
pins: 1 NULL, 2 IN- (in), 3 IN+ (in), 4 VEE (power), 5 NULL, 6 OUT (out), 7 VCC (power), 8 DNU

## MAX409B
designator U?
1.2 Micro A Max, Single-Supply Op Amp; 联系卖家 免费查找封装: 唯一出售店铺网址https://shop463601444.taobao.com
simulation model MAX409B (SUBCKT)
pins: 1 NULL, 2 IN- (in), 3 IN+ (in), 4 VEE (power), 5 NULL, 6 OUT (out), 7 VCC (power), 8 DNU

## MAX410
designator U?
Voltage-Feedback Operational Amplifier; 联系卖家 免费查找封装: 唯一出售店铺网址https://shop463601444.taobao.com
simulation model MAX410 (SUBCKT)
pins: 1 NULL, 2 -IN (in), 3 +IN (in), 4 V- (power), 6 OUT (out), 7 V+ (power), 8 NULL

## MAX410B
designator U?
Voltage-Feedback Operational Amplifier; 联系卖家 免费查找封装: 唯一出售店铺网址https://shop463601444.taobao.com
simulation model MAX410B (SUBCKT)
pins: 1 NULL, 2 -IN (in), 3 +IN (in), 4 V- (power), 6 OUT (out), 7 V+ (power), 8 NULL

## MAX412
designator U?
Voltage-Feedback Operational Amplifier; 联系卖家 免费查找封装: 唯一出售店铺网址https://shop463601444.taobao.com
simulation model MAX412 (SUBCKT)
part A pins: 1 OUT 1 (out), 2 -IN1 (in), 3 +IN1 (in), 4 V- (power), 8 V+ (power)
part B pins: 4 V- (power), 5 +IN 2 (in), 6 -IN 2 (in), 7 OUT 2 (out), 8 V+ (power)

## MAX412B
designator U?
Voltage-Feedback Operational Amplifier; 联系卖家 免费查找封装: 唯一出售店铺网址https://shop463601444.taobao.com
simulation model MAX412B (SUBCKT)
part A pins: 1 OUT 1 (out), 2 -IN1 (in), 3 +IN1 (in), 4 V- (power), 8 V+ (power)
part B pins: 4 V- (power), 5 +IN 2 (in), 6 -IN 2 (in), 7 OUT 2 (out), 8 V+ (power)

## MAX414B
designator U?
Voltage-Feedback Operational Amplifier; 联系卖家 免费查找封装: 唯一出售店铺网址https://shop463601444.taobao.com
simulation model MAX414B (SUBCKT)
part A pins: 1 OUT (out), 2 -IN 1 (in), 3 +IN 1 (in), 4 V+ (power), 11 V- (power)
part B pins: 4 V+ (power), 5 +IN 2 (in), 6 -IN 2 (in), 7 OUT 2 (out), 11 V- (power)
part C pins: 4 V+ (power), 8 OUT 3 (out), 9 -IN 3 (in), 10 +IN 3 (in), 11 V- (power)
part D pins: 4 V+ (power), 11 V- (power), 12 +IN 4 (in), 13 -IN 4, 14 OUT 4 (out)

## MAX417
designator U?
Voltage-Feedback Operational Amplifier; 联系卖家 免费查找封装: 唯一出售店铺网址https://shop463601444.taobao.com
simulation model MAX417 (SUBCKT)
part A pins: 1 OUT A (out), 2 -IN A (in), 3 +IN A (in), 4 V- (power), 8 V+ (power)
part B pins: 4 V- (power), 5 +IN B (in), 6 -IN B (in), 7 OUT B (out), 8 V+ (power)

## MAX418
designator U?
1.2uA Max Quad, Single-Supply Op Amp; 联系卖家 免费查找封装: 唯一出售店铺网址https://shop463601444.taobao.com
simulation model MAX418 (SUBCKT)
part A pins: 1 OUT (out), 2 IN- (in), 3 IN+ (in), 4 VCC (power), 11 VEE (power)
part B pins: 4 VCC (power), 5 IN+ (in), 6 IN- (in), 7 OUT (out), 11 VEE (power)
part C pins: 4 VCC (power), 8 OUT (out), 9 IN- (in), 10 IN+ (in), 11 VEE (power)
part D pins: 4 VCC (power), 11 VEE (power), 12 IN+ (in), 13 IN- (in), 14 OUT (out)

## MAX419
designator U?
1.2uA Max Quad, Single-Supply Op Amp; 联系卖家 免费查找封装: 唯一出售店铺网址https://shop463601444.taobao.com
simulation model MAX419 (SUBCKT)
part A pins: 1 OUT (out), 2 IN- (in), 3 IN+ (in), 4 VCC (power), 11 VEE (power)
part B pins: 4 VCC (power), 5 IN+ (in), 6 IN- (in), 7 OUT (out), 11 VEE (power)
part C pins: 4 VCC (power), 8 OUT (out), 9 IN- (in), 10 IN+ (in), 11 VEE (power)
part D pins: 4 VCC (power), 11 VEE (power), 12 IN+ (in), 13 IN- (in), 14 OUT (out)

## MAX427
designator U?
Voltage-Feedback Operational Amplifier; 联系卖家 免费查找封装: 唯一出售店铺网址https://shop463601444.taobao.com
simulation model MAX427 (SUBCKT)
pins: 1 BAL, 2 -IN (in), 3 +IN (in), 4 V- (power), 6 OUT (out), 7 V+ (power), 8 BAL

## MAX435
designator U?
Wideband Transconductance Amplifier; 联系卖家 免费查找封装: 唯一出售店铺网址https://shop463601444.taobao.com
simulation model MAX435 (SUBCKT)
pins: 1 VCC (power), 2 IN+ (in), 3 Z+, 4 DNU, 5 Z-, 6 IN- (in), 7 VEE (power), 8 VEE (power), 9 IOUT- (out), 10 VEE (power), 11 ISET, 12 VCC (power), 13 IOUT+ (out), 14 VCC (power)
text: 1, 12, 14; 7, 8, 10

## MAX436
designator U?
Wideband Transconductance Amplifier; Text Field6: Do not connected to Pins 4 and 9; 联系卖家 免费查找封装: 唯一出售店铺网址https://shop463601444.taobao.com
simulation model MAX436 (SUBCKT)
pins: 1 VCC (power), 2 IN+ (in), 3 Z+, 5 Z-, 6 IN- (in), 7 VEE (power), 8 VEE (power), 10 VEE (power), 11 ISET, 12 VCC (power), 13 IOUT (out), 14 VCC (power)
text: 1, 12, 14; 7, 8, 10

## MAX437
designator U?
Low Noise, High Precision Operational Amplifier; 联系卖家 免费查找封装: 唯一出售店铺网址https://shop463601444.taobao.com
simulation model MAX437 (SUBCKT)
pins: 1 BAL, 2 -IN (in), 3 +IN (in), 4 V- (power), 6 OUT (out), 7 V+ (power), 8 BAL

## MAX473
designator U?
Low Noise, High Precision Operational Amplifier; 联系卖家 免费查找封装: 唯一出售店铺网址https://shop463601444.taobao.com
simulation model MAX473 (SUBCKT)
pins: 1 NULL, 2 -IN (in), 3 +IN (in), 4 V- (power), 6 OUT (out), 7 V+ (power), 8 NULL

## MAX474
designator U?
Dual 10MHz, 15V/us, Single Supply Operational Amplifier; 联系卖家 免费查找封装: 唯一出售店铺网址https://shop463601444.taobao.com
simulation model MAX474 (SUBCKT)
part A pins: 1 OUT A (out), 2 -IN A (in), 3 +IN A (in), 4 V- (power), 8 V+ (power)
part B pins: 4 V- (power), 5 +IN B (in), 6 -IN B (in), 7 OUT B (out), 8 V+ (power)

## MAX475
designator U?
Quad 10MHz, 15V/us, Single Supply Operational Amplifier; 联系卖家 免费查找封装: 唯一出售店铺网址https://shop463601444.taobao.com
simulation model MAX475 (SUBCKT)
part A pins: 1 OUT (out), 2 -IN 1 (in), 3 +IN 1 (in), 4 V+ (power), 11 V- (power)
part B pins: 4 V+ (power), 5 +IN 2 (in), 6 -IN 2 (in), 7 OUT 2 (out), 11 V- (power)
part C pins: 4 V+ (power), 8 OUT 3 (out), 9 -IN 3 (in), 10 +IN 3 (in), 11 V- (power)
part D pins: 4 V+ (power), 11 V- (power), 12 +IN 4 (in), 13 -IN 4, 14 OUT 4 (out)

## MAX477
designator U?
300MHZ High-Speed Op Amp; Text Field6: Pins 1, 5, and 8 are not connected; 联系卖家 免费查找封装: 唯一出售店铺网址https://shop463601444.taobao.com
simulation model MAX477 (SUBCKT)
pins: 2 IN- (in), 3 IN+ (in), 4 VEE (power), 6 OUT (out), 7 VCC (power)

## MAX492
designator U?
Dual Voltage-Feedback Operational Amplifier; 联系卖家 免费查找封装: 唯一出售店铺网址https://shop463601444.taobao.com
simulation model MAX492 (SUBCKT)
part A pins: 1 OUT A (out), 2 -IN A (in), 3 +IN A (in), 4 V- (power), 8 V+ (power)
part B pins: 4 V- (power), 5 +IN B (in), 6 -IN B (in), 7 OUT B (out), 8 V+ (power)

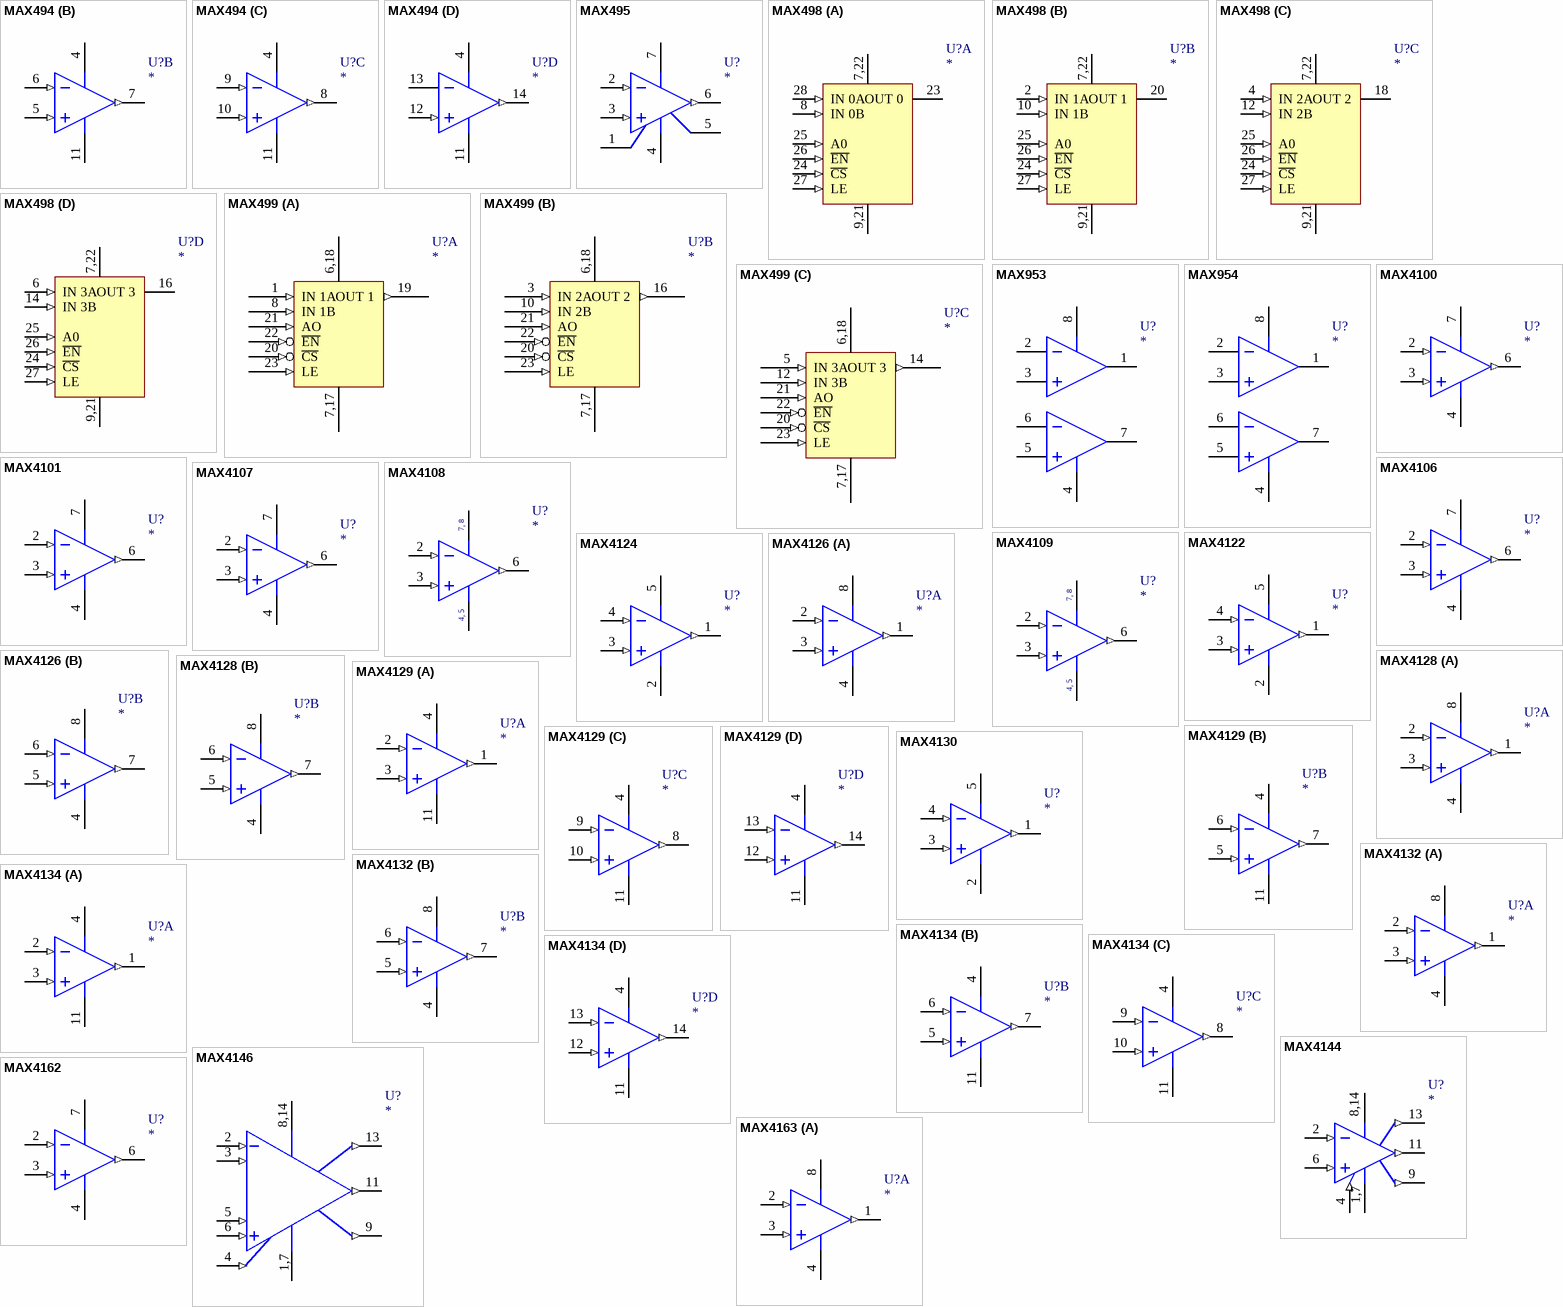
[diagram p17: symbols MAX494 to MAX4163]

## MAX494
designator U?
Quad Voltage-Feedback Operational Amplifier; 联系卖家 免费查找封装: 唯一出售店铺网址https://shop463601444.taobao.com
simulation model MAX494 (SUBCKT)
part A pins: 1 OUT (out), 2 -IN 1 (in), 3 +IN 1 (in), 4 V+ (power), 11 V- (power)
part B pins: 4 V+ (power), 5 +IN 2 (in), 6 -IN 2 (in), 7 OUT 2 (out), 11 V- (power)
part C pins: 4 V+ (power), 8 OUT 3 (out), 9 -IN 3 (in), 10 +IN 3 (in), 11 V- (power)
part D pins: 4 V+ (power), 11 V- (power), 12 +IN 4 (in), 13 -IN 4, 14 OUT 4 (out)

## MAX495
designator U?
Voltage-Feedback Operational Amplifier; 联系卖家 免费查找封装: 唯一出售店铺网址https://shop463601444.taobao.com
simulation model MAX495 (SUBCKT)
pins: 1 NULL, 2 -IN (in), 3 +IN (in), 4 V- (power), 5 NULL, 6 OUT (out), 7 V+ (power)

## MAX498
designator U?
Quad SPDT RGB Switches with 250 MHz Buffer Amplifier; 联系卖家 免费查找封装: 唯一出售店铺网址https://shop463601444.taobao.com
simulation model MAX498 (SUBCKT)
part A pins: 1 GND (power) hidden to GND, 3 GND (power) hidden to GND, 5 GND (power) hidden to GND, 7 VCC (power), 8 IN 0B (in), 9 VEE (power), 11 GND (power) hidden to GND, 13 GND (power) hidden to GND, 19 GND (power) hidden to GND, 21 VEE (power), 22 VCC (power), 23 OUT 0 (hiz), 24 ~{CS} (in), 25 A0 (in), 26 ~{EN} (in), 27 LE (in), 28 IN 0A (in)
part B pins: 1 GND (power) hidden to GND, 2 IN 1A (in), 3 GND (power) hidden to GND, 5 GND (power) hidden to GND, 7 VCC (power), 9 VEE (power), 10 IN 1B (in), 11 GND (power) hidden to GND, 13 GND (power) hidden to GND, 19 GND (power) hidden to GND, 20 OUT 1 (hiz), 21 VEE (power), 22 VCC (power), 24 ~{CS} (in), 25 A0 (in), 26 ~{EN} (in), 27 LE (in)
part C pins: 1 GND (power) hidden to GND, 3 GND (power) hidden to GND, 4 IN 2A (in), 5 GND (power) hidden to GND, 7 VCC (power), 9 VEE (power), 11 GND (power) hidden to GND, 12 IN 2B (in), 13 GND (power) hidden to GND, 18 OUT 2 (hiz), 19 GND (power) hidden to GND, 21 VEE (power), 22 VCC (power), 24 ~{CS} (in), 25 A0 (in), 26 ~{EN} (in), 27 LE (in)
part D pins: 1 GND (power) hidden to GND, 3 GND (power) hidden to GND, 5 GND (power) hidden to GND, 6 IN 3A (in), 7 VCC (power), 9 VEE (power), 11 GND (power) hidden to GND, 13 GND (power) hidden to GND, 14 IN 3B (in), 16 OUT 3 (hiz), 19 GND (power) hidden to GND, 21 VEE (power), 22 VCC (power), 24 ~{CS} (in), 25 A0 (in), 26 ~{EN} (in), 27 LE (in)
part A text: 7,22; 9,21
part B text: 7,22; 9,21
part C text: 7,22; 9,21
part D text: 7,22; 9,21

## MAX499
designator U?
Triple SPDT RGB Switches with 250 MHz Video Buffer Amplifier; 联系卖家 免费查找封装: 唯一出售店铺网址https://shop463601444.taobao.com
simulation model MAX499 (SUBCKT)
part A pins: 1 IN 1A (in), 2 GND (power) hidden to GND, 4 GND (power) hidden to GND, 6 VCC (power), 7 VEE (power), 8 IN 1B (in), 9 GND (power) hidden to GND, 11 GND (power) hidden to GND, 17 VEE (power), 18 VCC (power), 19 OUT 1 (out), 20 ~{CS} (in), 21 AO (in), 22 ~{EN} (in), 23 LE (in), 24 GND (power) hidden to GND
part B pins: 2 GND (power) hidden to GND, 3 IN 2A (in), 4 GND (power) hidden to GND, 6 VCC (power), 7 VEE (power), 9 GND (power) hidden to GND, 10 IN 2B (in), 11 GND (power) hidden to GND, 16 OUT 2 (out), 17 VEE (power), 18 VCC (power), 20 ~{CS} (in), 21 AO (in), 22 ~{EN} (in), 23 LE (in), 24 GND (power) hidden to GND
part C pins: 2 GND (power) hidden to GND, 4 GND (power) hidden to GND, 5 IN 3A (in), 6 VCC (power), 7 VEE (power), 9 GND (power) hidden to GND, 11 GND (power) hidden to GND, 12 IN 3B (in), 14 OUT 3 (out), 17 VEE (power), 18 VCC (power), 20 ~{CS} (in), 21 AO (in), 22 ~{EN} (in), 23 LE (in), 24 GND (power) hidden to GND
part A text: 6,18; 7,17
part B text: 6,18; 7,17
part C text: 6,18; 7,17

## MAX953
designator U?
Voltage-Feedback Operational Amplifier; 联系卖家 免费查找封装: 唯一出售店铺网址https://shop463601444.taobao.com
simulation model MAX953 (SUBCKT)
pins: 1 Ampout, 2 Ampin-, 3 Ampin+, 4 V- (power), 5 Compin+, 6 Compin-, 7 Compout, 8 V+ (power)

## MAX954
designator U?
Voltage-Feedback Operational Amplifier; 联系卖家 免费查找封装: 唯一出售店铺网址https://shop463601444.taobao.com
simulation model MAX954 (SUBCKT)
pins: 1 Ampout, 2 Ampin-, 3 Ampin+, 4 V- (power), 5 Compin+, 6 Compin-, 7 Compout, 8 V+ (power)

## MAX4100
designator U?
Voltage-Feedback Operational Amplifier; 联系卖家 免费查找封装: 唯一出售店铺网址https://shop463601444.taobao.com
simulation model MAX4100 (SUBCKT)
pins: 2 -IN (in), 3 +IN (in), 4 V- (power), 6 OUT (out), 7 V+ (power)

## MAX4101
designator U?
Voltage-Feedback Operational Amplifier; 联系卖家 免费查找封装: 唯一出售店铺网址https://shop463601444.taobao.com
simulation model MAX4101 (SUBCKT)
pins: 2 -IN (in), 3 +IN (in), 4 V- (power), 6 OUT (out), 7 V+ (power)

## MAX4106
designator U?
350MHz, Ultra-Low-Noise Op Amp; Text Field6: Pins 1, 5, and 8 are not connected; 联系卖家 免费查找封装: 唯一出售店铺网址https://shop463601444.taobao.com
simulation model MAX4106 (SUBCKT)
pins: 2 IN- (in), 3 IN+ (in), 4 VEE (power), 6 OUT (out), 7 VCC (power)

## MAX4107
designator U?
350MHz, Ultra-Low-Noise Op Amp; Text Field6: Pins 1, 5, and 8 are not connected; 联系卖家 免费查找封装: 唯一出售店铺网址https://shop463601444.taobao.com
simulation model MAX4107 (SUBCKT)
pins: 2 IN- (in), 3 IN+ (in), 4 VEE (power), 6 OUT (out), 7 VCC (power)

## MAX4108
designator U?
400MHz, Ultra-Low-Distortion Op Amp; Text Field6: Pin 1 is not connected; 联系卖家 免费查找封装: 唯一出售店铺网址https://shop463601444.taobao.com
simulation model MAX4108 (SUBCKT)
pins: 2 IN- (in), 3 IN+ (in), 4 VEE (power), 5 VEE (power), 6 OUT (out), 7 VCC (power), 8 VCC (power)
text: 7, 8; 4, 5

## MAX4109
designator U?
400MHz, Ultra-Low-Distortion Op Amp; Text Field6: Pin 1 is not connected; 联系卖家 免费查找封装: 唯一出售店铺网址https://shop463601444.taobao.com
simulation model MAX4109 (SUBCKT)
pins: 2 IN- (in), 3 IN+ (in), 4 VEE (power), 5 VEE (power), 6 OUT (out), 7 VCC (power), 8 VCC (power)
text: 7, 8; 4, 5

## MAX4122
designator U?
Wide-Bandwidth, Low-Power, Single-Supply Rail-to-Rail I/O Op Amp; 联系卖家 免费查找封装: 唯一出售店铺网址https://shop463601444.taobao.com
simulation model MAX4122 (SUBCKT)
pins: 1 OUT (out), 2 VEE (power), 3 IN+ (in), 4 IN- (in), 5 VCC (power)

## MAX4124
designator U?
Wide-Bandwidth, Low-Power, Single-Supply Rail-to-Rail I/O Op Amp; 联系卖家 免费查找封装: 唯一出售店铺网址https://shop463601444.taobao.com
simulation model MAX4124 (SUBCKT)
pins: 1 OUT (out), 2 VEE (power), 3 IN+ (in), 4 IN- (in), 5 VCC (power)

## MAX4126
designator U?
Dual Wide-Bandwidth, Low-Power, Single-Supply Rail-to-Rail I/O Op Amp; 联系卖家 免费查找封装: 唯一出售店铺网址https://shop463601444.taobao.com
simulation model MAX4126 (SUBCKT)
part A pins: 1 OUT (out), 2 IN- (in), 3 IN+ (in), 4 VEE (power), 8 VCC (power)
part B pins: 4 VEE (power), 5 IN+ (in), 6 IN- (in), 7 OUT (out), 8 VCC (power)

## MAX4128
designator U?
Dual Wide-Bandwidth, Low-Power, Single-Supply Rail-to-Rail I/O Op Amp; 联系卖家 免费查找封装: 唯一出售店铺网址https://shop463601444.taobao.com
simulation model MAX4128 (SUBCKT)
part A pins: 1 OUT (out), 2 IN- (in), 3 IN+ (in), 4 VEE (power), 8 VCC (power)
part B pins: 4 VEE (power), 5 IN+ (in), 6 IN- (in), 7 OUT (out), 8 VCC (power)

## MAX4129
designator U?
Quad Wide-Bandwidth, Low-Power, Single-Supply Rail-to-Rail I/O Op Amp; 联系卖家 免费查找封装: 唯一出售店铺网址https://shop463601444.taobao.com
simulation model MAX4129 (SUBCKT)
part A pins: 1 OUT (out), 2 IN- (in), 3 IN+ (in), 4 VCC (power), 11 VEE (power)
part B pins: 4 VCC (power), 5 IN+ (in), 6 IN- (in), 7 OUT (out), 11 VEE (power)
part C pins: 4 VCC (power), 8 OUT (out), 9 IN- (in), 10 IN+ (in), 11 VEE (power)
part D pins: 4 VCC (power), 11 VEE (power), 12 IN+ (in), 13 IN- (in), 14 OUT (out)

## MAX4130
designator U?
Wide-Bandwidth, Low-Power, Single-Supply Rail-to-Rail I/O Op Amp; 联系卖家 免费查找封装: 唯一出售店铺网址https://shop463601444.taobao.com
simulation model MAX4130 (SUBCKT)
pins: 1 OUT (out), 2 VEE (power), 3 IN+ (in), 4 IN- (in), 5 VCC (power)

## MAX4132
designator U?
Dual Wide-Bandwidth, Low-Power, Single-Supply Rail-to-Rail I/O Op Amp; 联系卖家 免费查找封装: 唯一出售店铺网址https://shop463601444.taobao.com
simulation model MAX4132 (SUBCKT)
part A pins: 1 OUT (out), 2 IN- (in), 3 IN+ (in), 4 VEE (power), 8 VCC (power)
part B pins: 4 VEE (power), 5 IN+ (in), 6 IN- (in), 7 OUT (out), 8 VCC (power)

## MAX4134
designator U?
Quad Wide-Bandwidth, Low-Power, Single-Supply Rail-to-Rail I/O Op Amp; 联系卖家 免费查找封装: 唯一出售店铺网址https://shop463601444.taobao.com
simulation model MAX4134 (SUBCKT)
part A pins: 1 OUT (out), 2 IN- (in), 3 IN+ (in), 4 VCC (power), 11 VEE (power)
part B pins: 4 VCC (power), 5 IN+ (in), 6 IN- (in), 7 OUT (out), 11 VEE (power)
part C pins: 4 VCC (power), 8 OUT (out), 9 IN- (in), 10 IN+ (in), 11 VEE (power)
part D pins: 4 VCC (power), 11 VEE (power), 12 IN+ (in), 13 IN- (in), 14 OUT (out)

## MAX4144
designator U?
High Speed Differential Line Receiver; 联系卖家 免费查找封装: 唯一出售店铺网址https://shop463601444.taobao.com
footprint SO14
simulation model MAX4144 (SUBCKT)
pins: 1 VEE (power), 2 IN- (in), 4 SHDN (in), 6 IN+ (in), 7 VEE (power), 8 VCC (power), 9 REF (out), 11 OUT (out), 13 SENSE (out), 14 VCC (power)
text: 8,14; 1,7

## MAX4146
designator U?
High Speed Differential Line Receiver; 联系卖家 免费查找封装: 唯一出售店铺网址https://shop463601444.taobao.com
footprint SO14
simulation model MAX4146 (SUBCKT)
pins: 1 VEE (power), 2 IN- (in), 3 RG- (in), 4 SHDN (in), 5 EG+ (in), 6 IN+ (in), 7 VEE (power), 8 VCC (power), 9 REF (out), 11 OUT (out), 13 SENSE (out), 14 VCC (power)
text: 8,14; 1,7

## MAX4162
designator U?
Micropower, Single-Supply, Rail-to-Rail I/O Op Amp; Text Field6: Pins 1, 5, and 8 are not connected; 联系卖家 免费查找封装: 唯一出售店铺网址https://shop463601444.taobao.com
simulation model MAX4162 (SUBCKT)
pins: 2 IN- (in), 3 IN+ (in), 4 VEE (power), 6 OUT (out), 7 VCC (power)

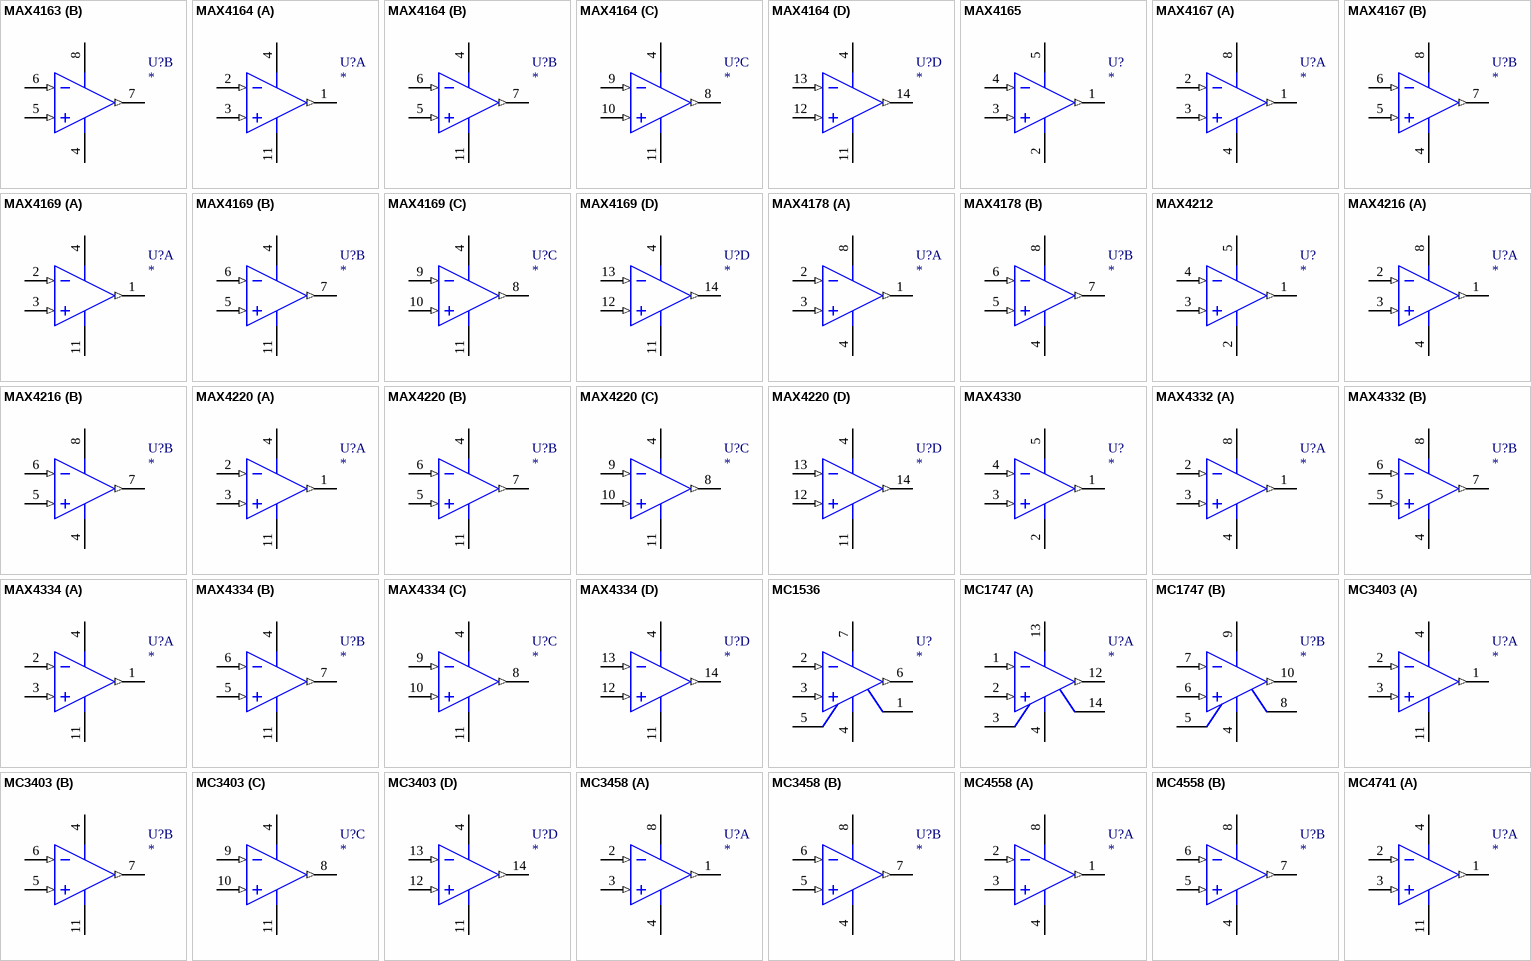
[diagram p18: symbols MAX4163 to MC4741]

## MAX4163
designator U?
Dual Micropower, Single-Supply, Rail-to-Rail I/O Op Amp; 联系卖家 免费查找封装: 唯一出售店铺网址https://shop463601444.taobao.com
simulation model MAX4163 (SUBCKT)
part A pins: 1 OUT (out), 2 IN- (in), 3 IN+ (in), 4 VEE (power), 8 VCC (power)
part B pins: 4 VEE (power), 5 IN+ (in), 6 IN- (in), 7 OUT (out), 8 VCC (power)

## MAX4164
designator U?
Quad Micropower, Single-Supply, Rail-to-Rail I/O Op Amp; 联系卖家 免费查找封装: 唯一出售店铺网址https://shop463601444.taobao.com
simulation model MAX4164 (SUBCKT)
part A pins: 1 OUT (out), 2 IN- (in), 3 IN+ (in), 4 VCC (power), 11 VEE (power)
part B pins: 4 VCC (power), 5 IN+ (in), 6 IN- (in), 7 OUT (out), 11 VEE (power)
part C pins: 4 VCC (power), 8 OUT (out), 9 IN- (in), 10 IN+ (in), 11 VEE (power)
part D pins: 4 VCC (power), 11 VEE (power), 12 IN+ (in), 13 IN- (in), 14 OUT (out)

## MAX4165
designator U?
High-Output-Drive, Precision, Low-Power, Single-Supply, Rail-to-Rail I/O Op Amp; 联系卖家 免费查找封装: 唯一出售店铺网址https://shop463601444.taobao.com
simulation model MAX4165 (SUBCKT)
pins: 1 OUT (out), 2 VEE (power), 3 IN+ (in), 4 IN- (in), 5 VCC (power)

## MAX4167
designator U?
Dual High-Output-Drive, Precision, Low-Power, Single-Supply, Rail-to-Rail I/O Op Amp; 联系卖家 免费查找封装: 唯一出售店铺网址https://shop463601444.taobao.com
simulation model MAX4167 (SUBCKT)
part A pins: 1 OUT (out), 2 IN- (in), 3 IN+ (in), 4 VEE (power), 8 VCC (power)
part B pins: 4 VEE (power), 5 IN+ (in), 6 IN- (in), 7 OUT (out), 8 VCC (power)

## MAX4169
designator U?
Quad High-Output-Drive, Precision, Low-Power, Single-Supply, Rail-to-Rail I/O Op Amp; 联系卖家 免费查找封装: 唯一出售店铺网址https://shop463601444.taobao.com
simulation model MAX4169 (SUBCKT)
part A pins: 1 OUT (out), 2 IN- (in), 3 IN+ (in), 4 VCC (power), 11 VEE (power)
part B pins: 4 VCC (power), 5 IN+ (in), 6 IN- (in), 7 OUT (out), 11 VEE (power)
part C pins: 4 VCC (power), 8 OUT (out), 9 IN- (in), 10 IN+ (in), 11 VEE (power)
part D pins: 4 VCC (power), 11 VEE (power), 12 IN+ (in), 13 IN- (in), 14 OUT (out)

## MAX4178
designator U?
Voltage-Feedback Operational Amplifier; 联系卖家 免费查找封装: 唯一出售店铺网址https://shop463601444.taobao.com
simulation model MAX4178 (SUBCKT)
part A pins: 1 OUT A (out), 2 -IN A (in), 3 +IN A (in), 4 V- (power), 8 V+ (power)
part B pins: 4 V- (power), 5 +IN B (in), 6 -IN B (in), 7 OUT B (out), 8 V+ (power)

## MAX4212
designator U?
Miniature, 300MHz, Single-Supply, Rail-to-Rail Op Amp; 联系卖家 免费查找封装: 唯一出售店铺网址https://shop463601444.taobao.com
simulation model MAX4212 (SUBCKT)
pins: 1 OUT (out), 2 VEE (power), 3 IN+ (in), 4 IN- (in), 5 VCC (power)

## MAX4216
designator U?
Dual Miniature, 300MHz, Single-Supply, Rail-to-Rail Op Amp; 联系卖家 免费查找封装: 唯一出售店铺网址https://shop463601444.taobao.com
simulation model MAX4216 (SUBCKT)
part A pins: 1 OUT (out), 2 IN- (in), 3 IN+ (in), 4 VEE (power), 8 VCC (power)
part B pins: 4 VEE (power), 5 IN+ (in), 6 IN- (in), 7 OUT (out), 8 VCC (power)

## MAX4220
designator U?
Quad 300MHz, Single-Supply, Rail-to-Rail Op Amp; 联系卖家 免费查找封装: 唯一出售店铺网址https://shop463601444.taobao.com
simulation model MAX4220 (SUBCKT)
part A pins: 1 OUT (out), 2 IN- (in), 3 IN+ (in), 4 VCC (power), 11 VEE (power)
part B pins: 4 VCC (power), 5 IN+ (in), 6 IN- (in), 7 OUT (out), 11 VEE (power)
part C pins: 4 VCC (power), 8 OUT (out), 9 IN- (in), 10 IN+ (in), 11 VEE (power)
part D pins: 4 VCC (power), 11 VEE (power), 12 IN+ (in), 13 IN- (in), 14 OUT (out)

## MAX4330
designator U?
Low-Power, Single-Supply, Rail-to-Rail I/O Op Amp; 联系卖家 免费查找封装: 唯一出售店铺网址https://shop463601444.taobao.com
simulation model MAX4330 (SUBCKT)
pins: 1 OUT (out), 2 VEE (power), 3 IN+ (in), 4 IN- (in), 5 VCC (power)

## MAX4332
designator U?
Dual Low-Power, Single-Supply, Rail-to-Rail I/O Op Amp; 联系卖家 免费查找封装: 唯一出售店铺网址https://shop463601444.taobao.com
simulation model MAX4332 (SUBCKT)
part A pins: 1 OUT (out), 2 IN- (in), 3 IN+ (in), 4 VEE (power), 8 VCC (power)
part B pins: 4 VEE (power), 5 IN+ (in), 6 IN- (in), 7 OUT (out), 8 VCC (power)

## MAX4334
designator U?
Quad Low-Power, Single-Supply, Rail-to-Rail I/O Op Amp; 联系卖家 免费查找封装: 唯一出售店铺网址https://shop463601444.taobao.com
simulation model MAX4334 (SUBCKT)
part A pins: 1 OUT (out), 2 IN- (in), 3 IN+ (in), 4 VCC (power), 11 VEE (power)
part B pins: 4 VCC (power), 5 IN+ (in), 6 IN- (in), 7 OUT (out), 11 VEE (power)
part C pins: 4 VCC (power), 8 OUT (out), 9 IN- (in), 10 IN+ (in), 11 VEE (power)
part D pins: 4 VCC (power), 11 VEE (power), 12 IN+ (in), 13 IN- (in), 14 OUT (out)

## MC1536
designator U?
High Voltage, Internally Compensated Oerational Amplifier; 联系卖家 免费查找封装: 唯一出售店铺网址https://shop463601444.taobao.com
simulation model MC1536 (SUBCKT)
pins: 1 OFFSET NULL, 2 IN- (in), 3 IN+ (in), 4 VEE (power), 5 OFFSET NULL, 6 OUT (out), 7 VCC (power)

## MC1747
designator U?
Internally Compensated, High Performance Operational Amplfier; 联系卖家 免费查找封装: 唯一出售店铺网址https://shop463601444.taobao.com
simulation model MC1747 (SUBCKT)
part A pins: 1 IN- (in), 2 IN+ (in), 3 OFFSET ADJ A, 4 VEE (power), 12 OUT A (out), 13 VCC A (power), 14 OFFSET ADJ A
part B pins: 4 VEE (power), 5 OFFSET ADJ B, 6 IN+ (in), 7 IN- (in), 8 OFFSET ADJ B, 9 VCC B (power), 10 OUT B (out)

## MC3403
designator U?
Quad Low Power Operational Amplifier; 联系卖家 免费查找封装: 唯一出售店铺网址https://shop463601444.taobao.com
simulation model MC3403 (SUBCKT)
part A pins: 1 OUT 1 (out), 2 IN-1 (in), 3 IN+1 (in), 4 VCC (power), 11 VEE (power)
part B pins: 4 VCC (power), 5 IN+2 (in), 6 IN-2 (in), 7 OUT 2 (out), 11 VEE (power)
part C pins: 4 VCC (power), 8 OUT 3 (out), 9 IN-3 (in), 10 IN+3 (in), 11 VEE (power)
part D pins: 4 VCC (power), 11 VEE (power), 12 IN+4 (in), 13 IN-4 (in), 14 OUT 4 (out)

## MC3458
designator U?
Dual Low Power Operational Amplifier; 联系卖家 免费查找封装: 唯一出售店铺网址https://shop463601444.taobao.com
simulation model MC3458 (SUBCKT)
part A pins: 1 OUTA (out), 2 IN-A (in), 3 IN+A (in), 4 VEE (power), 8 VCC (power)
part B pins: 4 VEE (power), 5 IN+B (in), 6 IN-B (in), 7 OUT B (out), 8 VCC (power)

## MC4558
designator U?
Dual Wide Bandwidth Operational Amplfier; 联系卖家 免费查找封装: 唯一出售店铺网址https://shop463601444.taobao.com
simulation model MC4558 (SUBCKT)
part A pins: 1 OUT A (out), 2 IN-A (in), 3 IN+A, 4 VEE (power), 8 VCC (power)
part B pins: 4 VEE (power), 5 IN+B (in), 6 IN-B (in), 7 OUT B (out), 8 VCC (power)

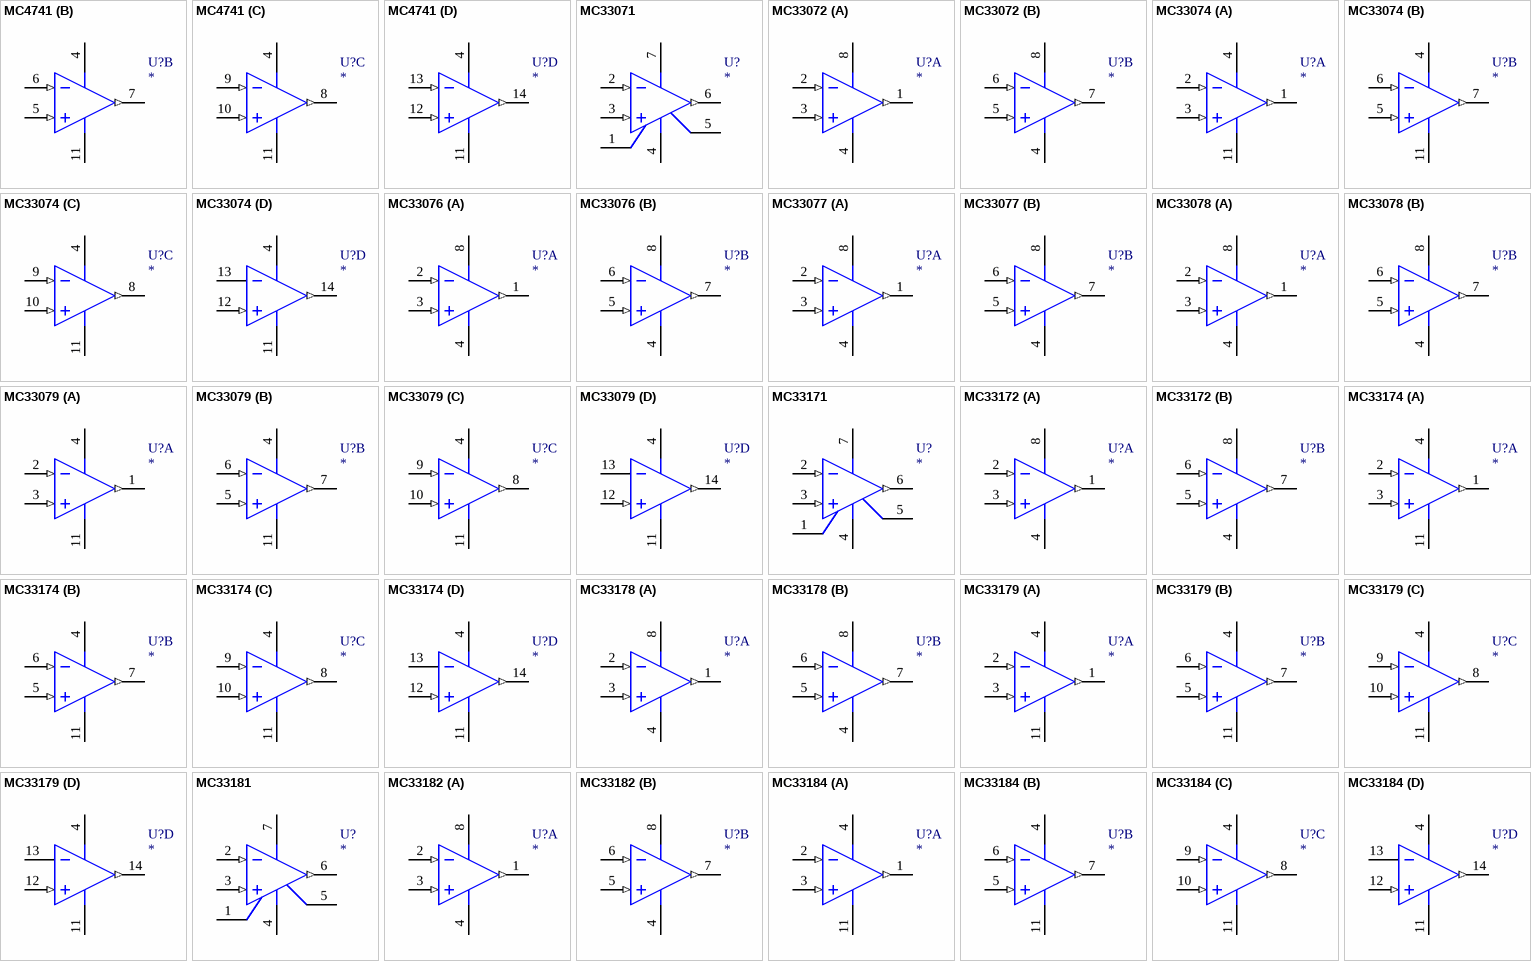
[diagram p19: symbols MC4741 to MC33184]

## MC4741
designator U?
Quad Differential Input Operational Amplifier; 联系卖家 免费查找封装: 唯一出售店铺网址https://shop463601444.taobao.com
simulation model MC4741 (SUBCKT)
part A pins: 1 OUT (out), 2 IN- (in), 3 IN+ (in), 4 VCC (power), 11 VEE (power)
part B pins: 4 VCC (power), 5 IN+ (in), 6 IN- (in), 7 OUT (out), 11 VEE (power)
part C pins: 4 VCC (power), 8 OUT (out), 9 IN- (in), 10 IN+ (in), 11 VEE (power)
part D pins: 4 VCC (power), 11 VEE (power), 12 IN+ (in), 13 IN- (in), 14 OUT (out)

## MC33071
designator U?
High Performance, Single Supply Operational Amplifier; 联系卖家 免费查找封装: 唯一出售店铺网址https://shop463601444.taobao.com
simulation model MC33071 (SUBCKT)
pins: 1 OFFSET NULL, 2 -IN (in), 3 +IN (in), 4 V- (power), 5 OFFSET NULL, 6 OUT (out), 7 V+ (power)

## MC33072
designator U?
Dual High Performance, Single Supply Operational Amplifier; 联系卖家 免费查找封装: 唯一出售店铺网址https://shop463601444.taobao.com
simulation model MC33072 (SUBCKT)
part A pins: 1 OUT A (out), 2 -IN A (in), 3 +IN A (in), 4 V- (power), 8 V+ (power)
part B pins: 4 V- (power), 5 +IN B (in), 6 -IN B (in), 7 OUT B (out), 8 V+ (power)

## MC33074
designator U?
Quad High Performance, Single Supply Operational Amplifier; 联系卖家 免费查找封装: 唯一出售店铺网址https://shop463601444.taobao.com
simulation model MC33074 (SUBCKT)
part A pins: 1 OUT (out), 2 -IN 1 (in), 3 +IN 1 (in), 4 V+ (power), 11 V- (power)
part B pins: 4 V+ (power), 5 +IN 2 (in), 6 -IN 2 (in), 7 OUT 2 (out), 11 V- (power)
part C pins: 4 V+ (power), 8 OUT 3 (out), 9 -IN 3 (in), 10 +IN 3 (in), 11 V- (power)
part D pins: 4 V+ (power), 11 V- (power), 12 +IN 4 (in), 13 -IN 4, 14 OUT 4 (out)

## MC33076
designator U?
Dual High Output Current Operational Amplifier; 联系卖家 免费查找封装: 唯一出售店铺网址https://shop463601444.taobao.com
simulation model MC33076 (SUBCKT)
part A pins: 1 OUT A (out), 2 -IN A (in), 3 +IN A (in), 4 V- (power), 8 V+ (power)
part B pins: 4 V- (power), 5 +IN B (in), 6 -IN B (in), 7 OUT B (out), 8 V+ (power)

## MC33077
designator U?
Dual, Low Noise Operational Amplifier; 联系卖家 免费查找封装: 唯一出售店铺网址https://shop463601444.taobao.com
simulation model MC33077 (SUBCKT)
part A pins: 1 OUT (out), 2 IN- (in), 3 IN+ (in), 4 VEE (power), 8 VCC (power)
part B pins: 4 VEE (power), 5 IN+ (in), 6 IN- (in), 7 OUT (out), 8 VCC (power)

## MC33078
designator U?
Low Noise Operational Amplifier; 联系卖家 免费查找封装: 唯一出售店铺网址https://shop463601444.taobao.com
simulation model MC33078 (SUBCKT)
part A pins: 1 OUT A (out), 2 -IN A (in), 3 +IN A (in), 4 V- (power), 8 V+ (power)
part B pins: 4 V- (power), 5 +IN B (in), 6 -IN B (in), 7 OUT B (out), 8 V+ (power)

## MC33079
designator U?
Low Noise Operational Amplifier; 联系卖家 免费查找封装: 唯一出售店铺网址https://shop463601444.taobao.com
simulation model MC33079 (SUBCKT)
part A pins: 1 OUT (out), 2 -IN 1 (in), 3 +IN 1 (in), 4 V+ (power), 11 V- (power)
part B pins: 4 V+ (power), 5 +IN 2 (in), 6 -IN 2 (in), 7 OUT 2 (out), 11 V- (power)
part C pins: 4 V+ (power), 8 OUT 3 (out), 9 -IN 3 (in), 10 +IN 3 (in), 11 V- (power)
part D pins: 4 V+ (power), 11 V- (power), 12 +IN 4 (in), 13 -IN 4, 14 OUT 4 (out)

## MC33171
designator U?
Low Power, Single Supply Operational Amplifier; 联系卖家 免费查找封装: 唯一出售店铺网址https://shop463601444.taobao.com
simulation model MC33171 (SUBCKT)
pins: 1 OFFSET NULL, 2 -IN (in), 3 +IN (in), 4 V- (power), 5 OFFSET NULL, 6 OUT (out), 7 V+ (power)

## MC33172
designator U?
Dual Low Power, Single Supply Operational Amplifier; 联系卖家 免费查找封装: 唯一出售店铺网址https://shop463601444.taobao.com
simulation model MC33172 (SUBCKT)
part A pins: 1 OUT A (out), 2 -IN A (in), 3 +IN A (in), 4 V- (power), 8 V+ (power)
part B pins: 4 V- (power), 5 +IN B (in), 6 -IN B (in), 7 OUT B (out), 8 V+ (power)

## MC33174
designator U?
Quad Low Power, Single Supply Operational Amplifier; 联系卖家 免费查找封装: 唯一出售店铺网址https://shop463601444.taobao.com
simulation model MC33174 (SUBCKT)
part A pins: 1 OUT (out), 2 -IN 1 (in), 3 +IN 1 (in), 4 V+ (power), 11 V- (power)
part B pins: 4 V+ (power), 5 +IN 2 (in), 6 -IN 2 (in), 7 OUT 2 (out), 11 V- (power)
part C pins: 4 V+ (power), 8 OUT 3 (out), 9 -IN 3 (in), 10 +IN 3 (in), 11 V- (power)
part D pins: 4 V+ (power), 11 V- (power), 12 +IN 4 (in), 13 -IN 4, 14 OUT 4 (out)